# Altium schematic symbol library MCU_ST_STM32G0.SchLib: 252 symbols (part 2 of 5)
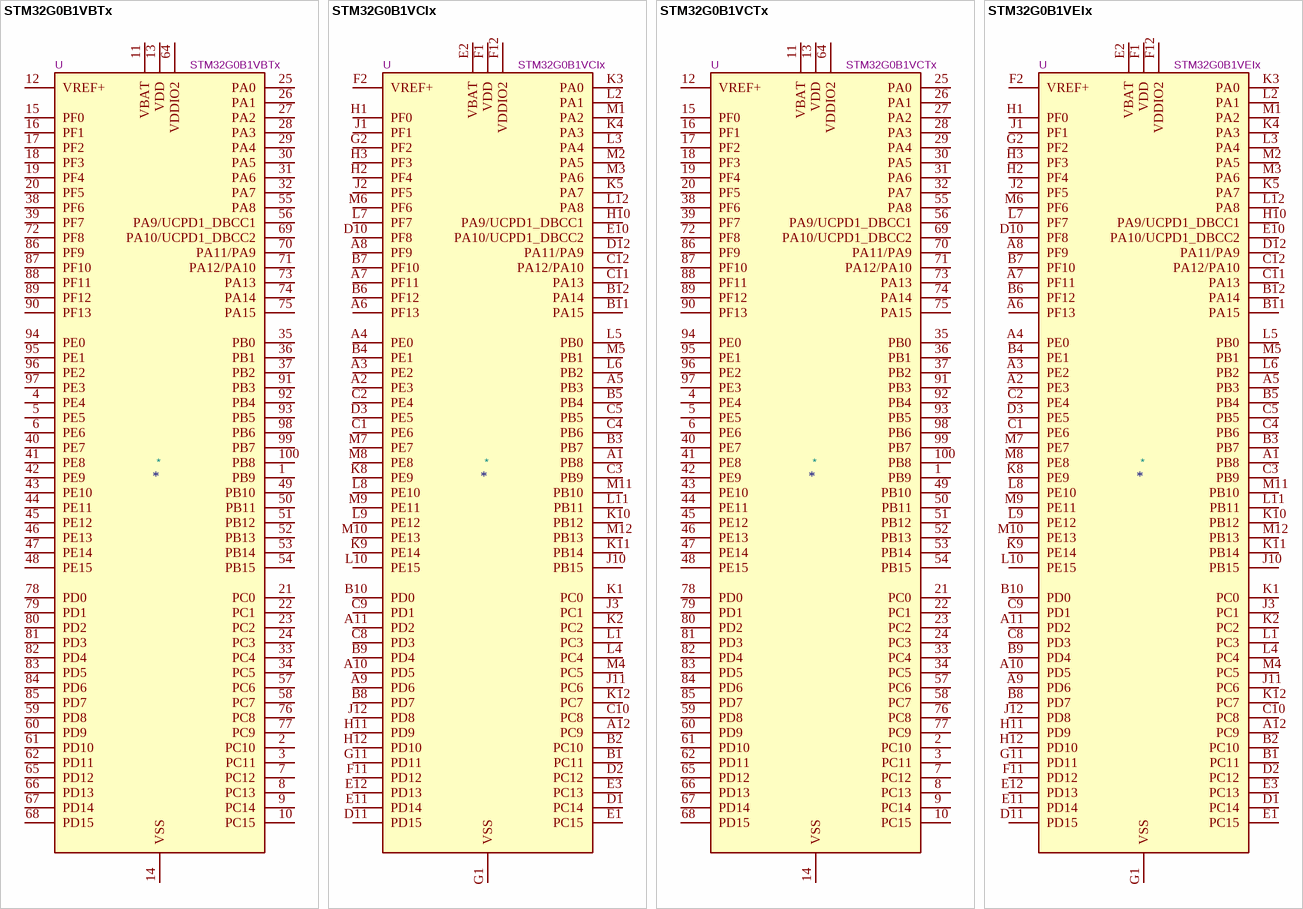
[diagram p20: symbols STM32G0B1VBTx to STM32G0B1VEIx]

## STM32G0B1VBTx
designator *  value STM32G0B1VBTx  Reference: U
ki_keywords: Arm Cortex-M0+ STM32G0 STM32G0x1; ki_description: STMicroelectronics Arm Cortex-M0+ MCU, 128KB flash, 144KB RAM, 64 MHz, 1.7-3.6V, 94 GPIO, LQFP100; ki_fp_filters: LQFP*14x14mm*P0.5mm*; Footprint: Package_QFP:LQFP-100_14x14mm_P0.5mm; Datasheet: https://www.st.com/resource/en/datasheet/stm32g0b1vb.pdf
pins: 1 PB9, 2 PC10, 3 PC11, 4 PE4, 5 PE5, 6 PE6, 7 PC12, 8 PC13, 9 PC14, 10 PC15, 11 VBAT, 12 VREF+, 13 VDD, 14 VSS, 15 PF0, 16 PF1, 17 PF2, 18 PF3, 19 PF4, 20 PF5, 21 PC0, 22 PC1, 23 PC2, 24 PC3, 25 PA0, 26 PA1, 27 PA2, 28 PA3, 29 PA4, 30 PA5, 31 PA6, 32 PA7, 33 PC4, 34 PC5, 35 PB0, 36 PB1, 37 PB2, 38 PF6, 39 PF7, 40 PE7, 41 PE8, 42 PE9, 43 PE10, 44 PE11, 45 PE12, 46 PE13, 47 PE14, 48 PE15, 49 PB10, 50 PB11, 51 PB12, 52 PB13, 53 PB14, 54 PB15, 55 PA8, 56 PA9/UCPD1_DBCC1, 57 PC6, 58 PC7, 59 PD8, 60 PD9, 61 PD10, 62 PD11, 63 VSS hidden, 64 VDDIO2, 65 PD12, 66 PD13, 67 PD14, 68 PD15, 69 PA10/UCPD1_DBCC2, 70 PA11/PA9, 71 PA12/PA10, 72 PF8, 73 PA13, 74 PA14, 75 PA15, 76 PC8, 77 PC9, 78 PD0, 79 PD1, 80 PD2, 81 PD3, 82 PD4, 83 PD5, 84 PD6, 85 PD7, 86 PF9, 87 PF10, 88 PF11, 89 PF12, 90 PF13, 91 PB3, 92 PB4, 93 PB5, 94 PE0, 95 PE1, 96 PE2, 97 PE3, 98 PB6, 99 PB7, 100 PB8

## STM32G0B1VCIx
designator *  value STM32G0B1VCIx  Reference: U
ki_keywords: Arm Cortex-M0+ STM32G0 STM32G0x1; ki_description: STMicroelectronics Arm Cortex-M0+ MCU, 256KB flash, 144KB RAM, 64 MHz, 1.7-3.6V, 94 GPIO, UFBGA100; ki_fp_filters: *UFBGA*7x7mm*Layout12x12*P0.5mm*; Footprint: Package_BGA:UFBGA-100_7x7mm_Layout12x12_P0.5mm; Datasheet: https://www.st.com/resource/en/datasheet/stm32g0b1vc.pdf
pins: A1 PB8, A2 PE3, A3 PE2, A4 PE0, A5 PB3, A6 PF13, A7 PF11, A8 PF9, A9 PD6, A10 PD5, A11 PD2, A12 PC9, B1 PC11, B2 PC10, B3 PB7, B4 PE1, B5 PB4, B6 PF12, B7 PF10, B8 PD7, B9 PD4, B10 PD0, B11 PA15, B12 PA14, C1 PE6, C2 PE4, C3 PB9, C4 PB6, C5 PB5, C8 PD3, C9 PD1, C10 PC8, C11 PA13, C12 PA12/PA10, D1 PC14, D2 PC12, D3 PE5, D10 PF8, D11 PD15, D12 PA11/PA9, E1 PC15, E2 VBAT, E3 PC13, E10 PA10/UCPD1_DBCC2, E11 PD14, E12 PD13, F1 VDD, F2 VREF+, F11 PD12, F12 VDDIO2, G1 VSS, G2 PF2, G11 PD11, G12 VSS hidden, H1 PF0, H2 PF4, H3 PF3, H10 PA9/UCPD1_DBCC1, H11 PD9, H12 PD10, J1 PF1, J2 PF5, J3 PC1, J10 PB15, J11 PC6, J12 PD8, K1 PC0, K2 PC2, K3 PA0, K4 PA3, K5 PA7, K8 PE9, K9 PE14, K10 PB12, K11 PB14, K12 PC7, L1 PC3, L2 PA1, L3 PA4, L4 PC4, L5 PB0, L6 PB2, L7 PF7, L8 PE10, L9 PE12, L10 PE15, L11 PB11, L12 PA8, M1 PA2, M2 PA5, M3 PA6, M4 PC5, M5 PB1, M6 PF6, M7 PE7, M8 PE8, M9 PE11, M10 PE13, M11 PB10, M12 PB13

## STM32G0B1VCTx
designator *  value STM32G0B1VCTx  Reference: U
ki_keywords: Arm Cortex-M0+ STM32G0 STM32G0x1; ki_description: STMicroelectronics Arm Cortex-M0+ MCU, 256KB flash, 144KB RAM, 64 MHz, 1.7-3.6V, 94 GPIO, LQFP100; ki_fp_filters: LQFP*14x14mm*P0.5mm*; Footprint: Package_QFP:LQFP-100_14x14mm_P0.5mm; Datasheet: https://www.st.com/resource/en/datasheet/stm32g0b1vc.pdf
pins: 1 PB9, 2 PC10, 3 PC11, 4 PE4, 5 PE5, 6 PE6, 7 PC12, 8 PC13, 9 PC14, 10 PC15, 11 VBAT, 12 VREF+, 13 VDD, 14 VSS, 15 PF0, 16 PF1, 17 PF2, 18 PF3, 19 PF4, 20 PF5, 21 PC0, 22 PC1, 23 PC2, 24 PC3, 25 PA0, 26 PA1, 27 PA2, 28 PA3, 29 PA4, 30 PA5, 31 PA6, 32 PA7, 33 PC4, 34 PC5, 35 PB0, 36 PB1, 37 PB2, 38 PF6, 39 PF7, 40 PE7, 41 PE8, 42 PE9, 43 PE10, 44 PE11, 45 PE12, 46 PE13, 47 PE14, 48 PE15, 49 PB10, 50 PB11, 51 PB12, 52 PB13, 53 PB14, 54 PB15, 55 PA8, 56 PA9/UCPD1_DBCC1, 57 PC6, 58 PC7, 59 PD8, 60 PD9, 61 PD10, 62 PD11, 63 VSS hidden, 64 VDDIO2, 65 PD12, 66 PD13, 67 PD14, 68 PD15, 69 PA10/UCPD1_DBCC2, 70 PA11/PA9, 71 PA12/PA10, 72 PF8, 73 PA13, 74 PA14, 75 PA15, 76 PC8, 77 PC9, 78 PD0, 79 PD1, 80 PD2, 81 PD3, 82 PD4, 83 PD5, 84 PD6, 85 PD7, 86 PF9, 87 PF10, 88 PF11, 89 PF12, 90 PF13, 91 PB3, 92 PB4, 93 PB5, 94 PE0, 95 PE1, 96 PE2, 97 PE3, 98 PB6, 99 PB7, 100 PB8

## STM32G0B1VEIx
designator *  value STM32G0B1VEIx  Reference: U
ki_keywords: Arm Cortex-M0+ STM32G0 STM32G0x1; ki_description: STMicroelectronics Arm Cortex-M0+ MCU, 512KB flash, 144KB RAM, 64 MHz, 1.7-3.6V, 94 GPIO, UFBGA100; ki_fp_filters: *UFBGA*7x7mm*Layout12x12*P0.5mm*; Footprint: Package_BGA:UFBGA-100_7x7mm_Layout12x12_P0.5mm; Datasheet: https://www.st.com/resource/en/datasheet/stm32g0b1ve.pdf
pins: A1 PB8, A2 PE3, A3 PE2, A4 PE0, A5 PB3, A6 PF13, A7 PF11, A8 PF9, A9 PD6, A10 PD5, A11 PD2, A12 PC9, B1 PC11, B2 PC10, B3 PB7, B4 PE1, B5 PB4, B6 PF12, B7 PF10, B8 PD7, B9 PD4, B10 PD0, B11 PA15, B12 PA14, C1 PE6, C2 PE4, C3 PB9, C4 PB6, C5 PB5, C8 PD3, C9 PD1, C10 PC8, C11 PA13, C12 PA12/PA10, D1 PC14, D2 PC12, D3 PE5, D10 PF8, D11 PD15, D12 PA11/PA9, E1 PC15, E2 VBAT, E3 PC13, E10 PA10/UCPD1_DBCC2, E11 PD14, E12 PD13, F1 VDD, F2 VREF+, F11 PD12, F12 VDDIO2, G1 VSS, G2 PF2, G11 PD11, G12 VSS hidden, H1 PF0, H2 PF4, H3 PF3, H10 PA9/UCPD1_DBCC1, H11 PD9, H12 PD10, J1 PF1, J2 PF5, J3 PC1, J10 PB15, J11 PC6, J12 PD8, K1 PC0, K2 PC2, K3 PA0, K4 PA3, K5 PA7, K8 PE9, K9 PE14, K10 PB12, K11 PB14, K12 PC7, L1 PC3, L2 PA1, L3 PA4, L4 PC4, L5 PB0, L6 PB2, L7 PF7, L8 PE10, L9 PE12, L10 PE15, L11 PB11, L12 PA8, M1 PA2, M2 PA5, M3 PA6, M4 PC5, M5 PB1, M6 PF6, M7 PE7, M8 PE8, M9 PE11, M10 PE13, M11 PB10, M12 PB13

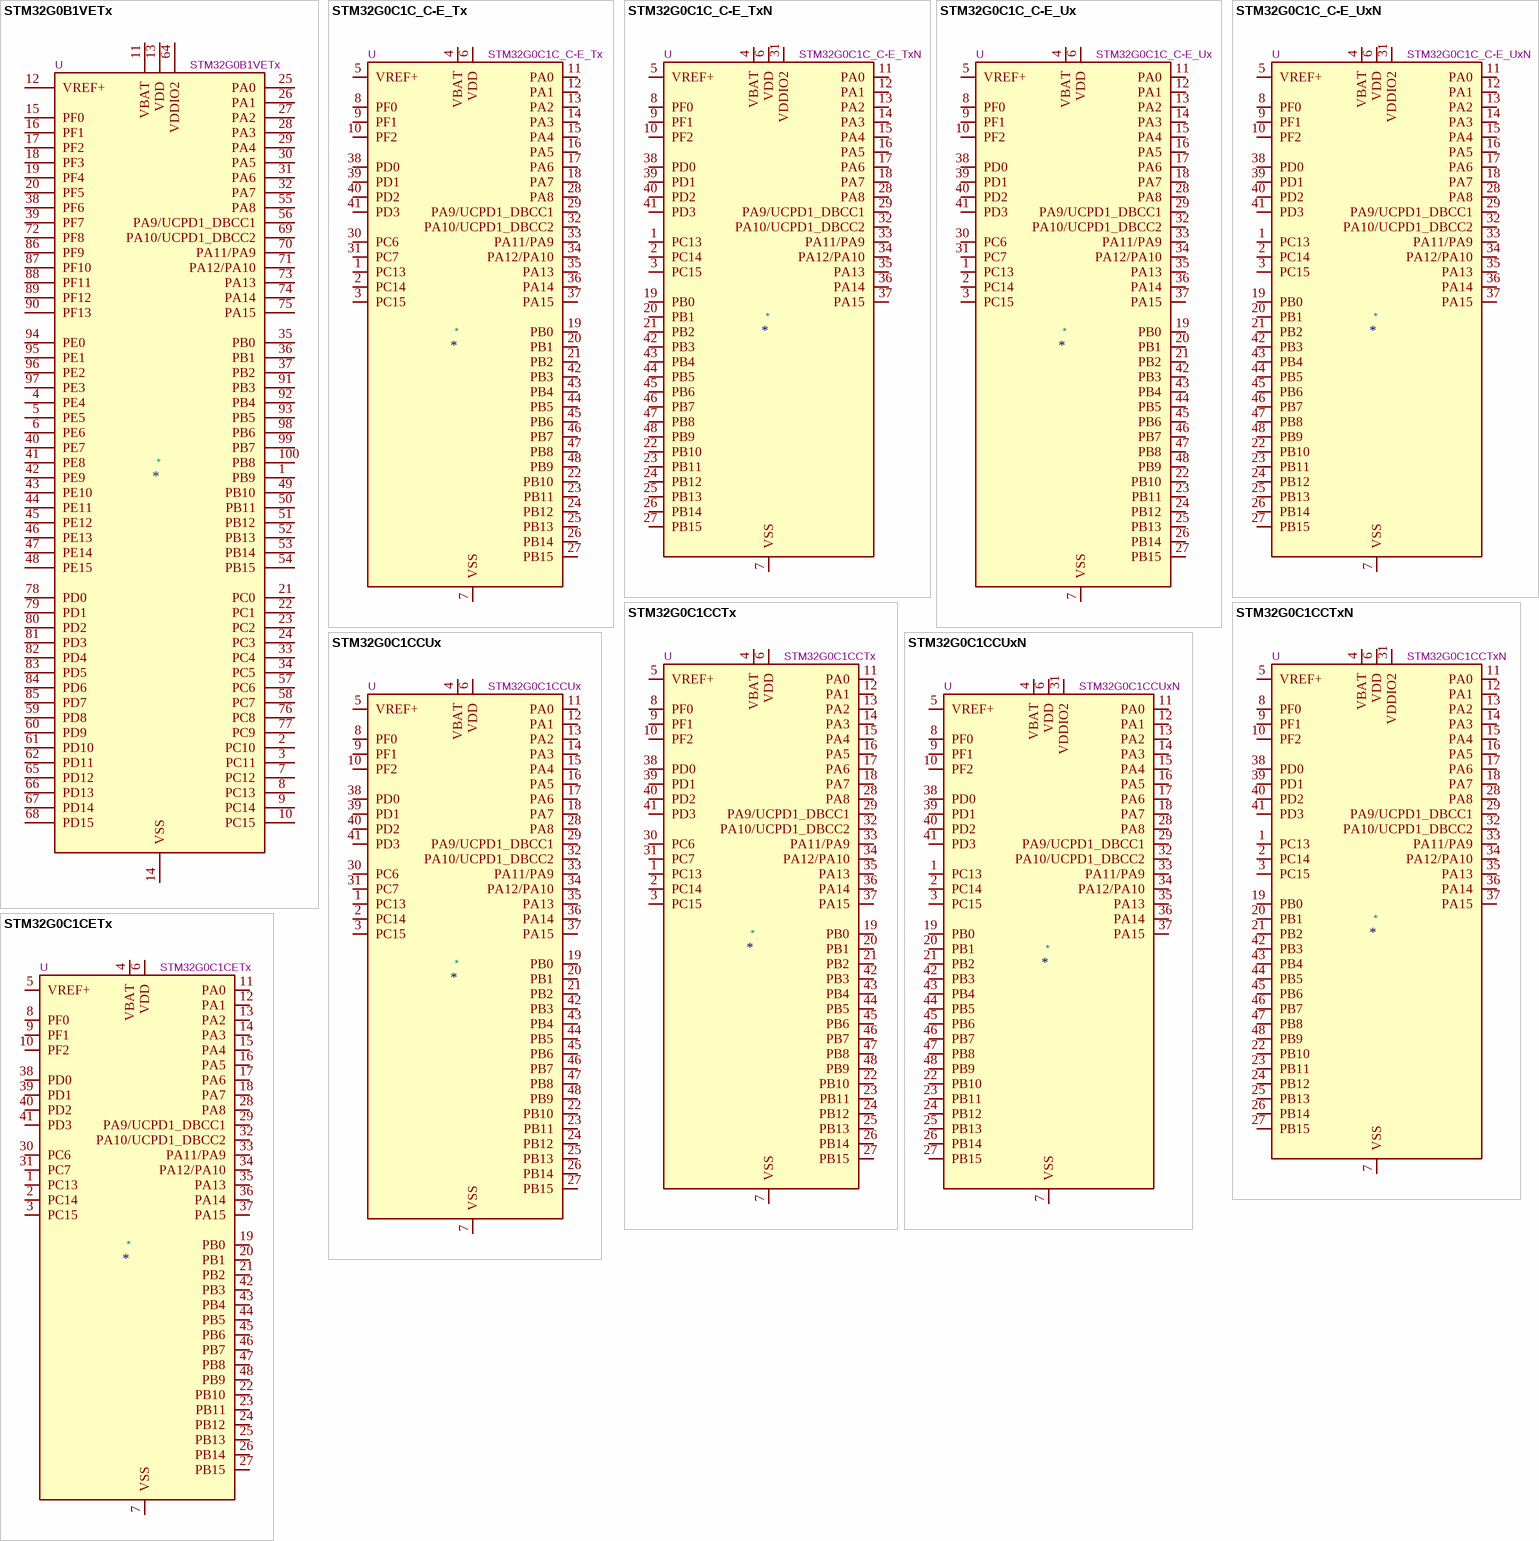
[diagram p6: symbols STM32G0B1VETx to STM32G0C1CETx]

## STM32G0B1VETx
designator *  value STM32G0B1VETx  Reference: U
ki_keywords: Arm Cortex-M0+ STM32G0 STM32G0x1; ki_description: STMicroelectronics Arm Cortex-M0+ MCU, 512KB flash, 144KB RAM, 64 MHz, 1.7-3.6V, 94 GPIO, LQFP100; ki_fp_filters: LQFP*14x14mm*P0.5mm*; Footprint: Package_QFP:LQFP-100_14x14mm_P0.5mm; Datasheet: https://www.st.com/resource/en/datasheet/stm32g0b1ve.pdf
pins: 1 PB9, 2 PC10, 3 PC11, 4 PE4, 5 PE5, 6 PE6, 7 PC12, 8 PC13, 9 PC14, 10 PC15, 11 VBAT, 12 VREF+, 13 VDD, 14 VSS, 15 PF0, 16 PF1, 17 PF2, 18 PF3, 19 PF4, 20 PF5, 21 PC0, 22 PC1, 23 PC2, 24 PC3, 25 PA0, 26 PA1, 27 PA2, 28 PA3, 29 PA4, 30 PA5, 31 PA6, 32 PA7, 33 PC4, 34 PC5, 35 PB0, 36 PB1, 37 PB2, 38 PF6, 39 PF7, 40 PE7, 41 PE8, 42 PE9, 43 PE10, 44 PE11, 45 PE12, 46 PE13, 47 PE14, 48 PE15, 49 PB10, 50 PB11, 51 PB12, 52 PB13, 53 PB14, 54 PB15, 55 PA8, 56 PA9/UCPD1_DBCC1, 57 PC6, 58 PC7, 59 PD8, 60 PD9, 61 PD10, 62 PD11, 63 VSS hidden, 64 VDDIO2, 65 PD12, 66 PD13, 67 PD14, 68 PD15, 69 PA10/UCPD1_DBCC2, 70 PA11/PA9, 71 PA12/PA10, 72 PF8, 73 PA13, 74 PA14, 75 PA15, 76 PC8, 77 PC9, 78 PD0, 79 PD1, 80 PD2, 81 PD3, 82 PD4, 83 PD5, 84 PD6, 85 PD7, 86 PF9, 87 PF10, 88 PF11, 89 PF12, 90 PF13, 91 PB3, 92 PB4, 93 PB5, 94 PE0, 95 PE1, 96 PE2, 97 PE3, 98 PB6, 99 PB7, 100 PB8

## STM32G0C1C_C-E_Tx
designator *  value STM32G0C1C_C-E_Tx  Reference: U
ki_keywords: Arm Cortex-M0+ STM32G0 STM32G0x1; ki_description: STMicroelectronics Arm Cortex-M0+ MCU, 256-512KB flash, 144KB RAM, 64 MHz, 1.7-3.6V, 44 GPIO, LQFP48; ki_fp_filters: LQFP*7x7mm*P0.5mm*; Footprint: Package_QFP:LQFP-48_7x7mm_P0.5mm; Datasheet: https://www.st.com/resource/en/datasheet/stm32g0c1cc.pdf
pins: 1 PC13, 2 PC14, 3 PC15, 4 VBAT, 5 VREF+, 6 VDD, 7 VSS, 8 PF0, 9 PF1, 10 PF2, 11 PA0, 12 PA1, 13 PA2, 14 PA3, 15 PA4, 16 PA5, 17 PA6, 18 PA7, 19 PB0, 20 PB1, 21 PB2, 22 PB10, 23 PB11, 24 PB12, 25 PB13, 26 PB14, 27 PB15, 28 PA8, 29 PA9/UCPD1_DBCC1, 30 PC6, 31 PC7, 32 PA10/UCPD1_DBCC2, 33 PA11/PA9, 34 PA12/PA10, 35 PA13, 36 PA14, 37 PA15, 38 PD0, 39 PD1, 40 PD2, 41 PD3, 42 PB3, 43 PB4, 44 PB5, 45 PB6, 46 PB7, 47 PB8, 48 PB9

## STM32G0C1C_C-E_TxN
designator *  value STM32G0C1C_C-E_TxN  Reference: U
ki_keywords: Arm Cortex-M0+ STM32G0 STM32G0x1; ki_description: STMicroelectronics Arm Cortex-M0+ MCU, 256-512KB flash, 144KB RAM, 64 MHz, 1.7-3.6V, 42 GPIO, LQFP48; ki_fp_filters: LQFP*7x7mm*P0.5mm*; Footprint: Package_QFP:LQFP-48_7x7mm_P0.5mm; Datasheet: https://www.st.com/resource/en/datasheet/stm32g0c1cc.pdf
pins: 1 PC13, 2 PC14, 3 PC15, 4 VBAT, 5 VREF+, 6 VDD, 7 VSS, 8 PF0, 9 PF1, 10 PF2, 11 PA0, 12 PA1, 13 PA2, 14 PA3, 15 PA4, 16 PA5, 17 PA6, 18 PA7, 19 PB0, 20 PB1, 21 PB2, 22 PB10, 23 PB11, 24 PB12, 25 PB13, 26 PB14, 27 PB15, 28 PA8, 29 PA9/UCPD1_DBCC1, 30 VSS hidden, 31 VDDIO2, 32 PA10/UCPD1_DBCC2, 33 PA11/PA9, 34 PA12/PA10, 35 PA13, 36 PA14, 37 PA15, 38 PD0, 39 PD1, 40 PD2, 41 PD3, 42 PB3, 43 PB4, 44 PB5, 45 PB6, 46 PB7, 47 PB8, 48 PB9

## STM32G0C1C_C-E_Ux
designator *  value STM32G0C1C_C-E_Ux  Reference: U
ki_keywords: Arm Cortex-M0+ STM32G0 STM32G0x1; ki_description: STMicroelectronics Arm Cortex-M0+ MCU, 256-512KB flash, 144KB RAM, 64 MHz, 1.7-3.6V, 44 GPIO, UFQFPN48; ki_fp_filters: QFN*1EP*7x7mm*P0.5mm*; Footprint: Package_DFN_QFN:QFN-48-1EP_7x7mm_P0.5mm_EP5.6x5.6mm; Datasheet: https://www.st.com/resource/en/datasheet/stm32g0c1cc.pdf
pins: 1 PC13, 2 PC14, 3 PC15, 4 VBAT, 5 VREF+, 6 VDD, 7 VSS, 8 PF0, 9 PF1, 10 PF2, 11 PA0, 12 PA1, 13 PA2, 14 PA3, 15 PA4, 16 PA5, 17 PA6, 18 PA7, 19 PB0, 20 PB1, 21 PB2, 22 PB10, 23 PB11, 24 PB12, 25 PB13, 26 PB14, 27 PB15, 28 PA8, 29 PA9/UCPD1_DBCC1, 30 PC6, 31 PC7, 32 PA10/UCPD1_DBCC2, 33 PA11/PA9, 34 PA12/PA10, 35 PA13, 36 PA14, 37 PA15, 38 PD0, 39 PD1, 40 PD2, 41 PD3, 42 PB3, 43 PB4, 44 PB5, 45 PB6, 46 PB7, 47 PB8, 48 PB9, 49 VSS hidden

## STM32G0C1C_C-E_UxN
designator *  value STM32G0C1C_C-E_UxN  Reference: U
ki_keywords: Arm Cortex-M0+ STM32G0 STM32G0x1; ki_description: STMicroelectronics Arm Cortex-M0+ MCU, 256-512KB flash, 144KB RAM, 64 MHz, 1.7-3.6V, 42 GPIO, UFQFPN48; ki_fp_filters: QFN*1EP*7x7mm*P0.5mm*; Footprint: Package_DFN_QFN:QFN-48-1EP_7x7mm_P0.5mm_EP5.6x5.6mm; Datasheet: https://www.st.com/resource/en/datasheet/stm32g0c1cc.pdf
pins: 1 PC13, 2 PC14, 3 PC15, 4 VBAT, 5 VREF+, 6 VDD, 7 VSS, 8 PF0, 9 PF1, 10 PF2, 11 PA0, 12 PA1, 13 PA2, 14 PA3, 15 PA4, 16 PA5, 17 PA6, 18 PA7, 19 PB0, 20 PB1, 21 PB2, 22 PB10, 23 PB11, 24 PB12, 25 PB13, 26 PB14, 27 PB15, 28 PA8, 29 PA9/UCPD1_DBCC1, 30 VSS hidden, 31 VDDIO2, 32 PA10/UCPD1_DBCC2, 33 PA11/PA9, 34 PA12/PA10, 35 PA13, 36 PA14, 37 PA15, 38 PD0, 39 PD1, 40 PD2, 41 PD3, 42 PB3, 43 PB4, 44 PB5, 45 PB6, 46 PB7, 47 PB8, 48 PB9, 49 VSS hidden

## STM32G0C1CCTx
designator *  value STM32G0C1CCTx  Reference: U
ki_keywords: Arm Cortex-M0+ STM32G0 STM32G0x1; ki_description: STMicroelectronics Arm Cortex-M0+ MCU, 256KB flash, 144KB RAM, 64 MHz, 1.7-3.6V, 44 GPIO, LQFP48; ki_fp_filters: LQFP*7x7mm*P0.5mm*; Footprint: Package_QFP:LQFP-48_7x7mm_P0.5mm; Datasheet: https://www.st.com/resource/en/datasheet/stm32g0c1cc.pdf
pins: 1 PC13, 2 PC14, 3 PC15, 4 VBAT, 5 VREF+, 6 VDD, 7 VSS, 8 PF0, 9 PF1, 10 PF2, 11 PA0, 12 PA1, 13 PA2, 14 PA3, 15 PA4, 16 PA5, 17 PA6, 18 PA7, 19 PB0, 20 PB1, 21 PB2, 22 PB10, 23 PB11, 24 PB12, 25 PB13, 26 PB14, 27 PB15, 28 PA8, 29 PA9/UCPD1_DBCC1, 30 PC6, 31 PC7, 32 PA10/UCPD1_DBCC2, 33 PA11/PA9, 34 PA12/PA10, 35 PA13, 36 PA14, 37 PA15, 38 PD0, 39 PD1, 40 PD2, 41 PD3, 42 PB3, 43 PB4, 44 PB5, 45 PB6, 46 PB7, 47 PB8, 48 PB9

## STM32G0C1CCTxN
designator *  value STM32G0C1CCTxN  Reference: U
ki_keywords: Arm Cortex-M0+ STM32G0 STM32G0x1; ki_description: STMicroelectronics Arm Cortex-M0+ MCU, 256KB flash, 144KB RAM, 64 MHz, 1.7-3.6V, 42 GPIO, LQFP48; ki_fp_filters: LQFP*7x7mm*P0.5mm*; Footprint: Package_QFP:LQFP-48_7x7mm_P0.5mm; Datasheet: https://www.st.com/resource/en/datasheet/stm32g0c1cc.pdf
pins: 1 PC13, 2 PC14, 3 PC15, 4 VBAT, 5 VREF+, 6 VDD, 7 VSS, 8 PF0, 9 PF1, 10 PF2, 11 PA0, 12 PA1, 13 PA2, 14 PA3, 15 PA4, 16 PA5, 17 PA6, 18 PA7, 19 PB0, 20 PB1, 21 PB2, 22 PB10, 23 PB11, 24 PB12, 25 PB13, 26 PB14, 27 PB15, 28 PA8, 29 PA9/UCPD1_DBCC1, 30 VSS hidden, 31 VDDIO2, 32 PA10/UCPD1_DBCC2, 33 PA11/PA9, 34 PA12/PA10, 35 PA13, 36 PA14, 37 PA15, 38 PD0, 39 PD1, 40 PD2, 41 PD3, 42 PB3, 43 PB4, 44 PB5, 45 PB6, 46 PB7, 47 PB8, 48 PB9

## STM32G0C1CCUx
designator *  value STM32G0C1CCUx  Reference: U
ki_keywords: Arm Cortex-M0+ STM32G0 STM32G0x1; ki_description: STMicroelectronics Arm Cortex-M0+ MCU, 256KB flash, 144KB RAM, 64 MHz, 1.7-3.6V, 44 GPIO, UFQFPN48; ki_fp_filters: QFN*1EP*7x7mm*P0.5mm*; Footprint: Package_DFN_QFN:QFN-48-1EP_7x7mm_P0.5mm_EP5.6x5.6mm; Datasheet: https://www.st.com/resource/en/datasheet/stm32g0c1cc.pdf
pins: 1 PC13, 2 PC14, 3 PC15, 4 VBAT, 5 VREF+, 6 VDD, 7 VSS, 8 PF0, 9 PF1, 10 PF2, 11 PA0, 12 PA1, 13 PA2, 14 PA3, 15 PA4, 16 PA5, 17 PA6, 18 PA7, 19 PB0, 20 PB1, 21 PB2, 22 PB10, 23 PB11, 24 PB12, 25 PB13, 26 PB14, 27 PB15, 28 PA8, 29 PA9/UCPD1_DBCC1, 30 PC6, 31 PC7, 32 PA10/UCPD1_DBCC2, 33 PA11/PA9, 34 PA12/PA10, 35 PA13, 36 PA14, 37 PA15, 38 PD0, 39 PD1, 40 PD2, 41 PD3, 42 PB3, 43 PB4, 44 PB5, 45 PB6, 46 PB7, 47 PB8, 48 PB9, 49 VSS hidden

## STM32G0C1CCUxN
designator *  value STM32G0C1CCUxN  Reference: U
ki_keywords: Arm Cortex-M0+ STM32G0 STM32G0x1; ki_description: STMicroelectronics Arm Cortex-M0+ MCU, 256KB flash, 144KB RAM, 64 MHz, 1.7-3.6V, 42 GPIO, UFQFPN48; ki_fp_filters: QFN*1EP*7x7mm*P0.5mm*; Footprint: Package_DFN_QFN:QFN-48-1EP_7x7mm_P0.5mm_EP5.6x5.6mm; Datasheet: https://www.st.com/resource/en/datasheet/stm32g0c1cc.pdf
pins: 1 PC13, 2 PC14, 3 PC15, 4 VBAT, 5 VREF+, 6 VDD, 7 VSS, 8 PF0, 9 PF1, 10 PF2, 11 PA0, 12 PA1, 13 PA2, 14 PA3, 15 PA4, 16 PA5, 17 PA6, 18 PA7, 19 PB0, 20 PB1, 21 PB2, 22 PB10, 23 PB11, 24 PB12, 25 PB13, 26 PB14, 27 PB15, 28 PA8, 29 PA9/UCPD1_DBCC1, 30 VSS hidden, 31 VDDIO2, 32 PA10/UCPD1_DBCC2, 33 PA11/PA9, 34 PA12/PA10, 35 PA13, 36 PA14, 37 PA15, 38 PD0, 39 PD1, 40 PD2, 41 PD3, 42 PB3, 43 PB4, 44 PB5, 45 PB6, 46 PB7, 47 PB8, 48 PB9, 49 VSS hidden

## STM32G0C1CETx
designator *  value STM32G0C1CETx  Reference: U
ki_keywords: Arm Cortex-M0+ STM32G0 STM32G0x1; ki_description: STMicroelectronics Arm Cortex-M0+ MCU, 512KB flash, 144KB RAM, 64 MHz, 1.7-3.6V, 44 GPIO, LQFP48; ki_fp_filters: LQFP*7x7mm*P0.5mm*; Footprint: Package_QFP:LQFP-48_7x7mm_P0.5mm; Datasheet: https://www.st.com/resource/en/datasheet/stm32g0c1ce.pdf
pins: 1 PC13, 2 PC14, 3 PC15, 4 VBAT, 5 VREF+, 6 VDD, 7 VSS, 8 PF0, 9 PF1, 10 PF2, 11 PA0, 12 PA1, 13 PA2, 14 PA3, 15 PA4, 16 PA5, 17 PA6, 18 PA7, 19 PB0, 20 PB1, 21 PB2, 22 PB10, 23 PB11, 24 PB12, 25 PB13, 26 PB14, 27 PB15, 28 PA8, 29 PA9/UCPD1_DBCC1, 30 PC6, 31 PC7, 32 PA10/UCPD1_DBCC2, 33 PA11/PA9, 34 PA12/PA10, 35 PA13, 36 PA14, 37 PA15, 38 PD0, 39 PD1, 40 PD2, 41 PD3, 42 PB3, 43 PB4, 44 PB5, 45 PB6, 46 PB7, 47 PB8, 48 PB9

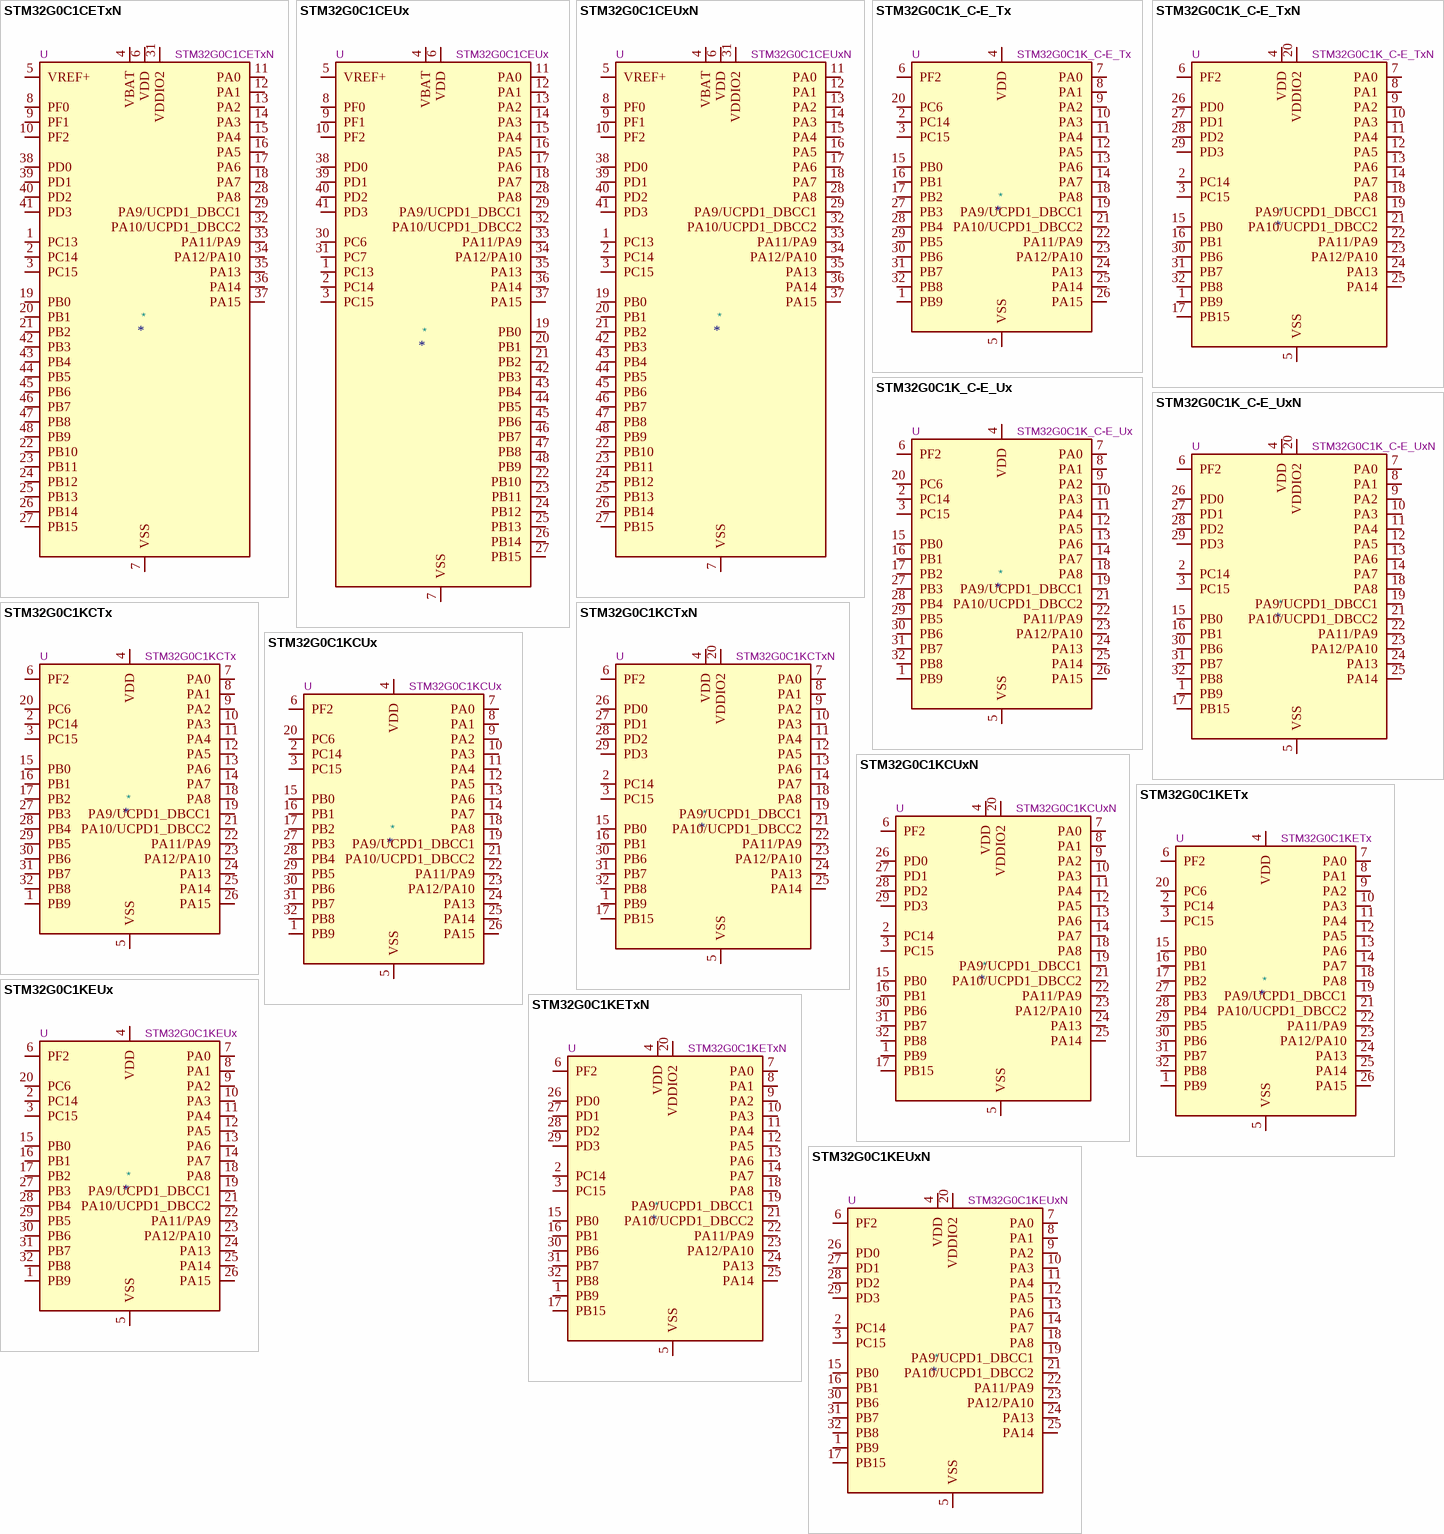
[diagram p7: symbols STM32G0C1CETxN to STM32G0C1KEUxN]

## STM32G0C1CETxN
designator *  value STM32G0C1CETxN  Reference: U
ki_keywords: Arm Cortex-M0+ STM32G0 STM32G0x1; ki_description: STMicroelectronics Arm Cortex-M0+ MCU, 512KB flash, 144KB RAM, 64 MHz, 1.7-3.6V, 42 GPIO, LQFP48; ki_fp_filters: LQFP*7x7mm*P0.5mm*; Footprint: Package_QFP:LQFP-48_7x7mm_P0.5mm; Datasheet: https://www.st.com/resource/en/datasheet/stm32g0c1ce.pdf
pins: 1 PC13, 2 PC14, 3 PC15, 4 VBAT, 5 VREF+, 6 VDD, 7 VSS, 8 PF0, 9 PF1, 10 PF2, 11 PA0, 12 PA1, 13 PA2, 14 PA3, 15 PA4, 16 PA5, 17 PA6, 18 PA7, 19 PB0, 20 PB1, 21 PB2, 22 PB10, 23 PB11, 24 PB12, 25 PB13, 26 PB14, 27 PB15, 28 PA8, 29 PA9/UCPD1_DBCC1, 30 VSS hidden, 31 VDDIO2, 32 PA10/UCPD1_DBCC2, 33 PA11/PA9, 34 PA12/PA10, 35 PA13, 36 PA14, 37 PA15, 38 PD0, 39 PD1, 40 PD2, 41 PD3, 42 PB3, 43 PB4, 44 PB5, 45 PB6, 46 PB7, 47 PB8, 48 PB9

## STM32G0C1CEUx
designator *  value STM32G0C1CEUx  Reference: U
ki_keywords: Arm Cortex-M0+ STM32G0 STM32G0x1; ki_description: STMicroelectronics Arm Cortex-M0+ MCU, 512KB flash, 144KB RAM, 64 MHz, 1.7-3.6V, 44 GPIO, UFQFPN48; ki_fp_filters: QFN*1EP*7x7mm*P0.5mm*; Footprint: Package_DFN_QFN:QFN-48-1EP_7x7mm_P0.5mm_EP5.6x5.6mm; Datasheet: https://www.st.com/resource/en/datasheet/stm32g0c1ce.pdf
pins: 1 PC13, 2 PC14, 3 PC15, 4 VBAT, 5 VREF+, 6 VDD, 7 VSS, 8 PF0, 9 PF1, 10 PF2, 11 PA0, 12 PA1, 13 PA2, 14 PA3, 15 PA4, 16 PA5, 17 PA6, 18 PA7, 19 PB0, 20 PB1, 21 PB2, 22 PB10, 23 PB11, 24 PB12, 25 PB13, 26 PB14, 27 PB15, 28 PA8, 29 PA9/UCPD1_DBCC1, 30 PC6, 31 PC7, 32 PA10/UCPD1_DBCC2, 33 PA11/PA9, 34 PA12/PA10, 35 PA13, 36 PA14, 37 PA15, 38 PD0, 39 PD1, 40 PD2, 41 PD3, 42 PB3, 43 PB4, 44 PB5, 45 PB6, 46 PB7, 47 PB8, 48 PB9, 49 VSS hidden

## STM32G0C1CEUxN
designator *  value STM32G0C1CEUxN  Reference: U
ki_keywords: Arm Cortex-M0+ STM32G0 STM32G0x1; ki_description: STMicroelectronics Arm Cortex-M0+ MCU, 512KB flash, 144KB RAM, 64 MHz, 1.7-3.6V, 42 GPIO, UFQFPN48; ki_fp_filters: QFN*1EP*7x7mm*P0.5mm*; Footprint: Package_DFN_QFN:QFN-48-1EP_7x7mm_P0.5mm_EP5.6x5.6mm; Datasheet: https://www.st.com/resource/en/datasheet/stm32g0c1ce.pdf
pins: 1 PC13, 2 PC14, 3 PC15, 4 VBAT, 5 VREF+, 6 VDD, 7 VSS, 8 PF0, 9 PF1, 10 PF2, 11 PA0, 12 PA1, 13 PA2, 14 PA3, 15 PA4, 16 PA5, 17 PA6, 18 PA7, 19 PB0, 20 PB1, 21 PB2, 22 PB10, 23 PB11, 24 PB12, 25 PB13, 26 PB14, 27 PB15, 28 PA8, 29 PA9/UCPD1_DBCC1, 30 VSS hidden, 31 VDDIO2, 32 PA10/UCPD1_DBCC2, 33 PA11/PA9, 34 PA12/PA10, 35 PA13, 36 PA14, 37 PA15, 38 PD0, 39 PD1, 40 PD2, 41 PD3, 42 PB3, 43 PB4, 44 PB5, 45 PB6, 46 PB7, 47 PB8, 48 PB9, 49 VSS hidden

## STM32G0C1K_C-E_Tx
designator *  value STM32G0C1K_C-E_Tx  Reference: U
ki_keywords: Arm Cortex-M0+ STM32G0 STM32G0x1; ki_description: STMicroelectronics Arm Cortex-M0+ MCU, 256-512KB flash, 144KB RAM, 64 MHz, 1.7-3.6V, 30 GPIO, LQFP32; ki_fp_filters: LQFP*7x7mm*P0.8mm*; Footprint: Package_QFP:LQFP-32_7x7mm_P0.8mm; Datasheet: https://www.st.com/resource/en/datasheet/stm32g0c1kc.pdf
pins: 1 PB9, 2 PC14, 3 PC15, 4 VDD, 5 VSS, 6 PF2, 7 PA0, 8 PA1, 9 PA2, 10 PA3, 11 PA4, 12 PA5, 13 PA6, 14 PA7, 15 PB0, 16 PB1, 17 PB2, 18 PA8, 19 PA9/UCPD1_DBCC1, 20 PC6, 21 PA10/UCPD1_DBCC2, 22 PA11/PA9, 23 PA12/PA10, 24 PA13, 25 PA14, 26 PA15, 27 PB3, 28 PB4, 29 PB5, 30 PB6, 31 PB7, 32 PB8

## STM32G0C1K_C-E_TxN
designator *  value STM32G0C1K_C-E_TxN  Reference: U
ki_keywords: Arm Cortex-M0+ STM32G0 STM32G0x1; ki_description: STMicroelectronics Arm Cortex-M0+ MCU, 256-512KB flash, 144KB RAM, 64 MHz, 1.7-3.6V, 29 GPIO, LQFP32; ki_fp_filters: LQFP*7x7mm*P0.8mm*; Footprint: Package_QFP:LQFP-32_7x7mm_P0.8mm; Datasheet: https://www.st.com/resource/en/datasheet/stm32g0c1kc.pdf
pins: 1 PB9, 2 PC14, 3 PC15, 4 VDD, 5 VSS, 6 PF2, 7 PA0, 8 PA1, 9 PA2, 10 PA3, 11 PA4, 12 PA5, 13 PA6, 14 PA7, 15 PB0, 16 PB1, 17 PB15, 18 PA8, 19 PA9/UCPD1_DBCC1, 20 VDDIO2, 21 PA10/UCPD1_DBCC2, 22 PA11/PA9, 23 PA12/PA10, 24 PA13, 25 PA14, 26 PD0, 27 PD1, 28 PD2, 29 PD3, 30 PB6, 31 PB7, 32 PB8

## STM32G0C1K_C-E_Ux
designator *  value STM32G0C1K_C-E_Ux  Reference: U
ki_keywords: Arm Cortex-M0+ STM32G0 STM32G0x1; ki_description: STMicroelectronics Arm Cortex-M0+ MCU, 256-512KB flash, 144KB RAM, 64 MHz, 1.7-3.6V, 30 GPIO, UFQFPN32; ki_fp_filters: QFN*1EP*5x5mm*P0.5mm*; Footprint: Package_DFN_QFN:QFN-32-1EP_5x5mm_P0.5mm_EP3.45x3.45mm; Datasheet: https://www.st.com/resource/en/datasheet/stm32g0c1kc.pdf
pins: 1 PB9, 2 PC14, 3 PC15, 4 VDD, 5 VSS, 6 PF2, 7 PA0, 8 PA1, 9 PA2, 10 PA3, 11 PA4, 12 PA5, 13 PA6, 14 PA7, 15 PB0, 16 PB1, 17 PB2, 18 PA8, 19 PA9/UCPD1_DBCC1, 20 PC6, 21 PA10/UCPD1_DBCC2, 22 PA11/PA9, 23 PA12/PA10, 24 PA13, 25 PA14, 26 PA15, 27 PB3, 28 PB4, 29 PB5, 30 PB6, 31 PB7, 32 PB8, 33 VSS hidden

## STM32G0C1K_C-E_UxN
designator *  value STM32G0C1K_C-E_UxN  Reference: U
ki_keywords: Arm Cortex-M0+ STM32G0 STM32G0x1; ki_description: STMicroelectronics Arm Cortex-M0+ MCU, 256-512KB flash, 144KB RAM, 64 MHz, 1.7-3.6V, 29 GPIO, UFQFPN32; ki_fp_filters: QFN*1EP*5x5mm*P0.5mm*; Footprint: Package_DFN_QFN:QFN-32-1EP_5x5mm_P0.5mm_EP3.45x3.45mm; Datasheet: https://www.st.com/resource/en/datasheet/stm32g0c1kc.pdf
pins: 1 PB9, 2 PC14, 3 PC15, 4 VDD, 5 VSS, 6 PF2, 7 PA0, 8 PA1, 9 PA2, 10 PA3, 11 PA4, 12 PA5, 13 PA6, 14 PA7, 15 PB0, 16 PB1, 17 PB15, 18 PA8, 19 PA9/UCPD1_DBCC1, 20 VDDIO2, 21 PA10/UCPD1_DBCC2, 22 PA11/PA9, 23 PA12/PA10, 24 PA13, 25 PA14, 26 PD0, 27 PD1, 28 PD2, 29 PD3, 30 PB6, 31 PB7, 32 PB8, 33 VSS hidden

## STM32G0C1KCTx
designator *  value STM32G0C1KCTx  Reference: U
ki_keywords: Arm Cortex-M0+ STM32G0 STM32G0x1; ki_description: STMicroelectronics Arm Cortex-M0+ MCU, 256KB flash, 144KB RAM, 64 MHz, 1.7-3.6V, 30 GPIO, LQFP32; ki_fp_filters: LQFP*7x7mm*P0.8mm*; Footprint: Package_QFP:LQFP-32_7x7mm_P0.8mm; Datasheet: https://www.st.com/resource/en/datasheet/stm32g0c1kc.pdf
pins: 1 PB9, 2 PC14, 3 PC15, 4 VDD, 5 VSS, 6 PF2, 7 PA0, 8 PA1, 9 PA2, 10 PA3, 11 PA4, 12 PA5, 13 PA6, 14 PA7, 15 PB0, 16 PB1, 17 PB2, 18 PA8, 19 PA9/UCPD1_DBCC1, 20 PC6, 21 PA10/UCPD1_DBCC2, 22 PA11/PA9, 23 PA12/PA10, 24 PA13, 25 PA14, 26 PA15, 27 PB3, 28 PB4, 29 PB5, 30 PB6, 31 PB7, 32 PB8

## STM32G0C1KCTxN
designator *  value STM32G0C1KCTxN  Reference: U
ki_keywords: Arm Cortex-M0+ STM32G0 STM32G0x1; ki_description: STMicroelectronics Arm Cortex-M0+ MCU, 256KB flash, 144KB RAM, 64 MHz, 1.7-3.6V, 29 GPIO, LQFP32; ki_fp_filters: LQFP*7x7mm*P0.8mm*; Footprint: Package_QFP:LQFP-32_7x7mm_P0.8mm; Datasheet: https://www.st.com/resource/en/datasheet/stm32g0c1kc.pdf
pins: 1 PB9, 2 PC14, 3 PC15, 4 VDD, 5 VSS, 6 PF2, 7 PA0, 8 PA1, 9 PA2, 10 PA3, 11 PA4, 12 PA5, 13 PA6, 14 PA7, 15 PB0, 16 PB1, 17 PB15, 18 PA8, 19 PA9/UCPD1_DBCC1, 20 VDDIO2, 21 PA10/UCPD1_DBCC2, 22 PA11/PA9, 23 PA12/PA10, 24 PA13, 25 PA14, 26 PD0, 27 PD1, 28 PD2, 29 PD3, 30 PB6, 31 PB7, 32 PB8

## STM32G0C1KCUx
designator *  value STM32G0C1KCUx  Reference: U
ki_keywords: Arm Cortex-M0+ STM32G0 STM32G0x1; ki_description: STMicroelectronics Arm Cortex-M0+ MCU, 256KB flash, 144KB RAM, 64 MHz, 1.7-3.6V, 30 GPIO, UFQFPN32; ki_fp_filters: QFN*1EP*5x5mm*P0.5mm*; Footprint: Package_DFN_QFN:QFN-32-1EP_5x5mm_P0.5mm_EP3.45x3.45mm; Datasheet: https://www.st.com/resource/en/datasheet/stm32g0c1kc.pdf
pins: 1 PB9, 2 PC14, 3 PC15, 4 VDD, 5 VSS, 6 PF2, 7 PA0, 8 PA1, 9 PA2, 10 PA3, 11 PA4, 12 PA5, 13 PA6, 14 PA7, 15 PB0, 16 PB1, 17 PB2, 18 PA8, 19 PA9/UCPD1_DBCC1, 20 PC6, 21 PA10/UCPD1_DBCC2, 22 PA11/PA9, 23 PA12/PA10, 24 PA13, 25 PA14, 26 PA15, 27 PB3, 28 PB4, 29 PB5, 30 PB6, 31 PB7, 32 PB8, 33 VSS hidden

## STM32G0C1KCUxN
designator *  value STM32G0C1KCUxN  Reference: U
ki_keywords: Arm Cortex-M0+ STM32G0 STM32G0x1; ki_description: STMicroelectronics Arm Cortex-M0+ MCU, 256KB flash, 144KB RAM, 64 MHz, 1.7-3.6V, 29 GPIO, UFQFPN32; ki_fp_filters: QFN*1EP*5x5mm*P0.5mm*; Footprint: Package_DFN_QFN:QFN-32-1EP_5x5mm_P0.5mm_EP3.45x3.45mm; Datasheet: https://www.st.com/resource/en/datasheet/stm32g0c1kc.pdf
pins: 1 PB9, 2 PC14, 3 PC15, 4 VDD, 5 VSS, 6 PF2, 7 PA0, 8 PA1, 9 PA2, 10 PA3, 11 PA4, 12 PA5, 13 PA6, 14 PA7, 15 PB0, 16 PB1, 17 PB15, 18 PA8, 19 PA9/UCPD1_DBCC1, 20 VDDIO2, 21 PA10/UCPD1_DBCC2, 22 PA11/PA9, 23 PA12/PA10, 24 PA13, 25 PA14, 26 PD0, 27 PD1, 28 PD2, 29 PD3, 30 PB6, 31 PB7, 32 PB8, 33 VSS hidden

## STM32G0C1KETx
designator *  value STM32G0C1KETx  Reference: U
ki_keywords: Arm Cortex-M0+ STM32G0 STM32G0x1; ki_description: STMicroelectronics Arm Cortex-M0+ MCU, 512KB flash, 144KB RAM, 64 MHz, 1.7-3.6V, 30 GPIO, LQFP32; ki_fp_filters: LQFP*7x7mm*P0.8mm*; Footprint: Package_QFP:LQFP-32_7x7mm_P0.8mm; Datasheet: https://www.st.com/resource/en/datasheet/stm32g0c1ke.pdf
pins: 1 PB9, 2 PC14, 3 PC15, 4 VDD, 5 VSS, 6 PF2, 7 PA0, 8 PA1, 9 PA2, 10 PA3, 11 PA4, 12 PA5, 13 PA6, 14 PA7, 15 PB0, 16 PB1, 17 PB2, 18 PA8, 19 PA9/UCPD1_DBCC1, 20 PC6, 21 PA10/UCPD1_DBCC2, 22 PA11/PA9, 23 PA12/PA10, 24 PA13, 25 PA14, 26 PA15, 27 PB3, 28 PB4, 29 PB5, 30 PB6, 31 PB7, 32 PB8

## STM32G0C1KETxN
designator *  value STM32G0C1KETxN  Reference: U
ki_keywords: Arm Cortex-M0+ STM32G0 STM32G0x1; ki_description: STMicroelectronics Arm Cortex-M0+ MCU, 512KB flash, 144KB RAM, 64 MHz, 1.7-3.6V, 29 GPIO, LQFP32; ki_fp_filters: LQFP*7x7mm*P0.8mm*; Footprint: Package_QFP:LQFP-32_7x7mm_P0.8mm; Datasheet: https://www.st.com/resource/en/datasheet/stm32g0c1ke.pdf
pins: 1 PB9, 2 PC14, 3 PC15, 4 VDD, 5 VSS, 6 PF2, 7 PA0, 8 PA1, 9 PA2, 10 PA3, 11 PA4, 12 PA5, 13 PA6, 14 PA7, 15 PB0, 16 PB1, 17 PB15, 18 PA8, 19 PA9/UCPD1_DBCC1, 20 VDDIO2, 21 PA10/UCPD1_DBCC2, 22 PA11/PA9, 23 PA12/PA10, 24 PA13, 25 PA14, 26 PD0, 27 PD1, 28 PD2, 29 PD3, 30 PB6, 31 PB7, 32 PB8

## STM32G0C1KEUx
designator *  value STM32G0C1KEUx  Reference: U
ki_keywords: Arm Cortex-M0+ STM32G0 STM32G0x1; ki_description: STMicroelectronics Arm Cortex-M0+ MCU, 512KB flash, 144KB RAM, 64 MHz, 1.7-3.6V, 30 GPIO, UFQFPN32; ki_fp_filters: QFN*1EP*5x5mm*P0.5mm*; Footprint: Package_DFN_QFN:QFN-32-1EP_5x5mm_P0.5mm_EP3.45x3.45mm; Datasheet: https://www.st.com/resource/en/datasheet/stm32g0c1ke.pdf
pins: 1 PB9, 2 PC14, 3 PC15, 4 VDD, 5 VSS, 6 PF2, 7 PA0, 8 PA1, 9 PA2, 10 PA3, 11 PA4, 12 PA5, 13 PA6, 14 PA7, 15 PB0, 16 PB1, 17 PB2, 18 PA8, 19 PA9/UCPD1_DBCC1, 20 PC6, 21 PA10/UCPD1_DBCC2, 22 PA11/PA9, 23 PA12/PA10, 24 PA13, 25 PA14, 26 PA15, 27 PB3, 28 PB4, 29 PB5, 30 PB6, 31 PB7, 32 PB8, 33 VSS hidden

## STM32G0C1KEUxN
designator *  value STM32G0C1KEUxN  Reference: U
ki_keywords: Arm Cortex-M0+ STM32G0 STM32G0x1; ki_description: STMicroelectronics Arm Cortex-M0+ MCU, 512KB flash, 144KB RAM, 64 MHz, 1.7-3.6V, 29 GPIO, UFQFPN32; ki_fp_filters: QFN*1EP*5x5mm*P0.5mm*; Footprint: Package_DFN_QFN:QFN-32-1EP_5x5mm_P0.5mm_EP3.45x3.45mm; Datasheet: https://www.st.com/resource/en/datasheet/stm32g0c1ke.pdf
pins: 1 PB9, 2 PC14, 3 PC15, 4 VDD, 5 VSS, 6 PF2, 7 PA0, 8 PA1, 9 PA2, 10 PA3, 11 PA4, 12 PA5, 13 PA6, 14 PA7, 15 PB0, 16 PB1, 17 PB15, 18 PA8, 19 PA9/UCPD1_DBCC1, 20 VDDIO2, 21 PA10/UCPD1_DBCC2, 22 PA11/PA9, 23 PA12/PA10, 24 PA13, 25 PA14, 26 PD0, 27 PD1, 28 PD2, 29 PD3, 30 PB6, 31 PB7, 32 PB8, 33 VSS hidden

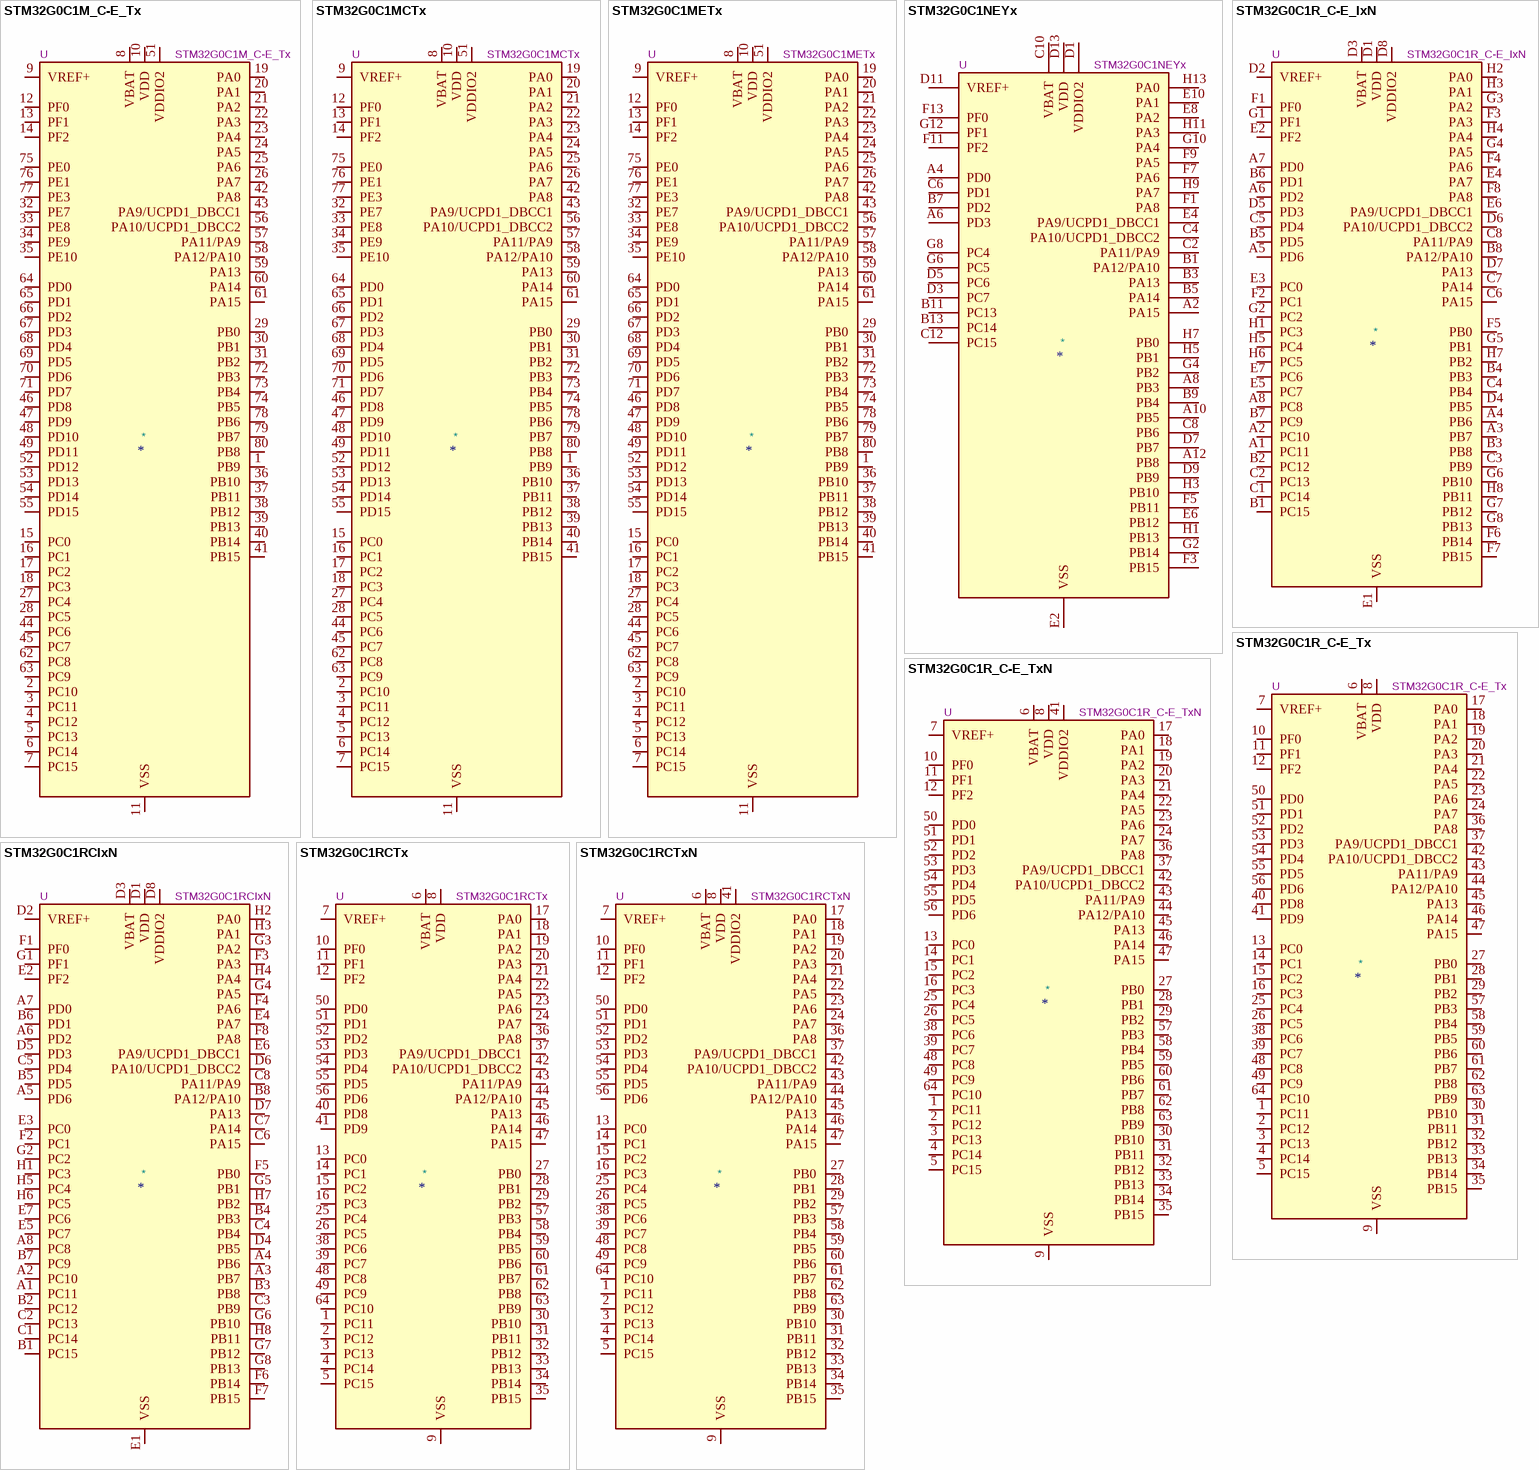
[diagram p8: symbols STM32G0C1M_C-E_Tx to STM32G0C1RCTxN]

## STM32G0C1M_C-E_Tx
designator *  value STM32G0C1M_C-E_Tx  Reference: U
ki_keywords: Arm Cortex-M0+ STM32G0 STM32G0x1; ki_description: STMicroelectronics Arm Cortex-M0+ MCU, 256-512KB flash, 144KB RAM, 64 MHz, 1.7-3.6V, 74 GPIO, LQFP80; ki_fp_filters: LQFP*12x12mm*P0.5mm*; Footprint: Package_QFP:LQFP-80_12x12mm_P0.5mm; Datasheet: https://www.st.com/resource/en/datasheet/stm32g0c1mc.pdf
pins: 1 PB9, 2 PC10, 3 PC11, 4 PC12, 5 PC13, 6 PC14, 7 PC15, 8 VBAT, 9 VREF+, 10 VDD, 11 VSS, 12 PF0, 13 PF1, 14 PF2, 15 PC0, 16 PC1, 17 PC2, 18 PC3, 19 PA0, 20 PA1, 21 PA2, 22 PA3, 23 PA4, 24 PA5, 25 PA6, 26 PA7, 27 PC4, 28 PC5, 29 PB0, 30 PB1, 31 PB2, 32 PE7, 33 PE8, 34 PE9, 35 PE10, 36 PB10, 37 PB11, 38 PB12, 39 PB13, 40 PB14, 41 PB15, 42 PA8, 43 PA9/UCPD1_DBCC1, 44 PC6, 45 PC7, 46 PD8, 47 PD9, 48 PD10, 49 PD11, 50 VSS hidden, 51 VDDIO2, 52 PD12, 53 PD13, 54 PD14, 55 PD15, 56 PA10/UCPD1_DBCC2, 57 PA11/PA9, 58 PA12/PA10, 59 PA13, 60 PA14, 61 PA15, 62 PC8, 63 PC9, 64 PD0, 65 PD1, 66 PD2, 67 PD3, 68 PD4, 69 PD5, 70 PD6, 71 PD7, 72 PB3, 73 PB4, 74 PB5, 75 PE0, 76 PE1, 77 PE3, 78 PB6, 79 PB7, 80 PB8

## STM32G0C1MCTx
designator *  value STM32G0C1MCTx  Reference: U
ki_keywords: Arm Cortex-M0+ STM32G0 STM32G0x1; ki_description: STMicroelectronics Arm Cortex-M0+ MCU, 256KB flash, 144KB RAM, 64 MHz, 1.7-3.6V, 74 GPIO, LQFP80; ki_fp_filters: LQFP*12x12mm*P0.5mm*; Footprint: Package_QFP:LQFP-80_12x12mm_P0.5mm; Datasheet: https://www.st.com/resource/en/datasheet/stm32g0c1mc.pdf
pins: 1 PB9, 2 PC10, 3 PC11, 4 PC12, 5 PC13, 6 PC14, 7 PC15, 8 VBAT, 9 VREF+, 10 VDD, 11 VSS, 12 PF0, 13 PF1, 14 PF2, 15 PC0, 16 PC1, 17 PC2, 18 PC3, 19 PA0, 20 PA1, 21 PA2, 22 PA3, 23 PA4, 24 PA5, 25 PA6, 26 PA7, 27 PC4, 28 PC5, 29 PB0, 30 PB1, 31 PB2, 32 PE7, 33 PE8, 34 PE9, 35 PE10, 36 PB10, 37 PB11, 38 PB12, 39 PB13, 40 PB14, 41 PB15, 42 PA8, 43 PA9/UCPD1_DBCC1, 44 PC6, 45 PC7, 46 PD8, 47 PD9, 48 PD10, 49 PD11, 50 VSS hidden, 51 VDDIO2, 52 PD12, 53 PD13, 54 PD14, 55 PD15, 56 PA10/UCPD1_DBCC2, 57 PA11/PA9, 58 PA12/PA10, 59 PA13, 60 PA14, 61 PA15, 62 PC8, 63 PC9, 64 PD0, 65 PD1, 66 PD2, 67 PD3, 68 PD4, 69 PD5, 70 PD6, 71 PD7, 72 PB3, 73 PB4, 74 PB5, 75 PE0, 76 PE1, 77 PE3, 78 PB6, 79 PB7, 80 PB8

## STM32G0C1METx
designator *  value STM32G0C1METx  Reference: U
ki_keywords: Arm Cortex-M0+ STM32G0 STM32G0x1; ki_description: STMicroelectronics Arm Cortex-M0+ MCU, 512KB flash, 144KB RAM, 64 MHz, 1.7-3.6V, 74 GPIO, LQFP80; ki_fp_filters: LQFP*12x12mm*P0.5mm*; Footprint: Package_QFP:LQFP-80_12x12mm_P0.5mm; Datasheet: https://www.st.com/resource/en/datasheet/stm32g0c1me.pdf
pins: 1 PB9, 2 PC10, 3 PC11, 4 PC12, 5 PC13, 6 PC14, 7 PC15, 8 VBAT, 9 VREF+, 10 VDD, 11 VSS, 12 PF0, 13 PF1, 14 PF2, 15 PC0, 16 PC1, 17 PC2, 18 PC3, 19 PA0, 20 PA1, 21 PA2, 22 PA3, 23 PA4, 24 PA5, 25 PA6, 26 PA7, 27 PC4, 28 PC5, 29 PB0, 30 PB1, 31 PB2, 32 PE7, 33 PE8, 34 PE9, 35 PE10, 36 PB10, 37 PB11, 38 PB12, 39 PB13, 40 PB14, 41 PB15, 42 PA8, 43 PA9/UCPD1_DBCC1, 44 PC6, 45 PC7, 46 PD8, 47 PD9, 48 PD10, 49 PD11, 50 VSS hidden, 51 VDDIO2, 52 PD12, 53 PD13, 54 PD14, 55 PD15, 56 PA10/UCPD1_DBCC2, 57 PA11/PA9, 58 PA12/PA10, 59 PA13, 60 PA14, 61 PA15, 62 PC8, 63 PC9, 64 PD0, 65 PD1, 66 PD2, 67 PD3, 68 PD4, 69 PD5, 70 PD6, 71 PD7, 72 PB3, 73 PB4, 74 PB5, 75 PE0, 76 PE1, 77 PE3, 78 PB6, 79 PB7, 80 PB8

## STM32G0C1NEYx
designator *  value STM32G0C1NEYx  Reference: U
ki_keywords: Arm Cortex-M0+ STM32G0 STM32G0x1; ki_description: STMicroelectronics Arm Cortex-M0+ MCU, 512KB flash, 144KB RAM, 64 MHz, 1.7-3.6V, 46 GPIO, WLCSP52; Footprint: Package_CSP:ST_WLCSP-52_3.09x3.15mm_P0.4mm_Stagger; Datasheet: https://www.st.com/resource/en/datasheet/stm32g0c1ne.pdf; ki_fp_filters: *
pins: A2 PA15, A4 PD0, A6 PD3, A8 PB3, A10 PB5, A12 PB8, B1 PA12/PA10, B3 PA13, B5 PA14, B7 PD2, B9 PB4, B11 PC13, B13 PC14, C2 PA11/PA9, C4 PA10/UCPD1_DBCC2, C6 PD1, C8 PB6, C10 VBAT, C12 PC15, D1 VDDIO2, D3 PC7, D5 PC6, D7 PB7, D9 PB9, D11 VREF+, D13 VDD, E2 VSS, E4 PA9/UCPD1_DBCC1, E6 PB12, E8 PA2, E10 PA1, E12 VSS hidden, F1 PA8, F3 PB15, F5 PB11, F7 PA6, F9 PA5, F11 PF2, F13 PF0, G2 PB14, G4 PB2, G6 PC5, G8 PC4, G10 PA4, G12 PF1, H1 PB13, H3 PB10, H5 PB1, H7 PB0, H9 PA7, H11 PA3, H13 PA0

## STM32G0C1R_C-E_IxN
designator *  value STM32G0C1R_C-E_IxN  Reference: U
ki_keywords: Arm Cortex-M0+ STM32G0 STM32G0x1; ki_description: STMicroelectronics Arm Cortex-M0+ MCU, 256-512KB flash, 144KB RAM, 64 MHz, 1.7-3.6V, 58 GPIO, UFBGA64; ki_fp_filters: *UFBGA*5x5mm*Layout8x8*P0.5mm*; Footprint: Package_BGA:UFBGA-64_5x5mm_Layout8x8_P0.5mm; Datasheet: https://www.st.com/resource/en/datasheet/stm32g0c1rc.pdf
pins: A1 PC11, A2 PC10, A3 PB7, A4 PB6, A5 PD6, A6 PD2, A7 PD0, A8 PC8, B1 PC15, B2 PC12, B3 PB8, B4 PB3, B5 PD5, B6 PD1, B7 PC9, B8 PA12/PA10, C1 PC14, C2 PC13, C3 PB9, C4 PB4, C5 PD4, C6 PA15, C7 PA14, C8 PA11/PA9, D1 VDD, D2 VREF+, D3 VBAT, D4 PB5, D5 PD3, D6 PA10/UCPD1_DBCC2, D7 PA13, D8 VDDIO2, E1 VSS, E2 PF2, E3 PC0, E4 PA7, E5 PC7, E6 PA9/UCPD1_DBCC1, E7 PC6, E8 VSS hidden, F1 PF0, F2 PC1, F3 PA3, F4 PA6, F5 PB0, F6 PB14, F7 PB15, F8 PA8, G1 PF1, G2 PC2, G3 PA2, G4 PA5, G5 PB1, G6 PB10, G7 PB12, G8 PB13, H1 PC3, H2 PA0, H3 PA1, H4 PA4, H5 PC4, H6 PC5, H7 PB2, H8 PB11

## STM32G0C1R_C-E_Tx
designator *  value STM32G0C1R_C-E_Tx  Reference: U
ki_keywords: Arm Cortex-M0+ STM32G0 STM32G0x1; ki_description: STMicroelectronics Arm Cortex-M0+ MCU, 256-512KB flash, 144KB RAM, 64 MHz, 1.7-3.6V, 60 GPIO, LQFP64; ki_fp_filters: LQFP*10x10mm*P0.5mm*; Footprint: Package_QFP:LQFP-64_10x10mm_P0.5mm; Datasheet: https://www.st.com/resource/en/datasheet/stm32g0c1rc.pdf
pins: 1 PC11, 2 PC12, 3 PC13, 4 PC14, 5 PC15, 6 VBAT, 7 VREF+, 8 VDD, 9 VSS, 10 PF0, 11 PF1, 12 PF2, 13 PC0, 14 PC1, 15 PC2, 16 PC3, 17 PA0, 18 PA1, 19 PA2, 20 PA3, 21 PA4, 22 PA5, 23 PA6, 24 PA7, 25 PC4, 26 PC5, 27 PB0, 28 PB1, 29 PB2, 30 PB10, 31 PB11, 32 PB12, 33 PB13, 34 PB14, 35 PB15, 36 PA8, 37 PA9/UCPD1_DBCC1, 38 PC6, 39 PC7, 40 PD8, 41 PD9, 42 PA10/UCPD1_DBCC2, 43 PA11/PA9, 44 PA12/PA10, 45 PA13, 46 PA14, 47 PA15, 48 PC8, 49 PC9, 50 PD0, 51 PD1, 52 PD2, 53 PD3, 54 PD4, 55 PD5, 56 PD6, 57 PB3, 58 PB4, 59 PB5, 60 PB6, 61 PB7, 62 PB8, 63 PB9, 64 PC10

## STM32G0C1R_C-E_TxN
designator *  value STM32G0C1R_C-E_TxN  Reference: U
ki_keywords: Arm Cortex-M0+ STM32G0 STM32G0x1; ki_description: STMicroelectronics Arm Cortex-M0+ MCU, 256-512KB flash, 144KB RAM, 64 MHz, 1.7-3.6V, 58 GPIO, LQFP64; ki_fp_filters: LQFP*10x10mm*P0.5mm*; Footprint: Package_QFP:LQFP-64_10x10mm_P0.5mm; Datasheet: https://www.st.com/resource/en/datasheet/stm32g0c1rc.pdf
pins: 1 PC11, 2 PC12, 3 PC13, 4 PC14, 5 PC15, 6 VBAT, 7 VREF+, 8 VDD, 9 VSS, 10 PF0, 11 PF1, 12 PF2, 13 PC0, 14 PC1, 15 PC2, 16 PC3, 17 PA0, 18 PA1, 19 PA2, 20 PA3, 21 PA4, 22 PA5, 23 PA6, 24 PA7, 25 PC4, 26 PC5, 27 PB0, 28 PB1, 29 PB2, 30 PB10, 31 PB11, 32 PB12, 33 PB13, 34 PB14, 35 PB15, 36 PA8, 37 PA9/UCPD1_DBCC1, 38 PC6, 39 PC7, 40 VSS hidden, 41 VDDIO2, 42 PA10/UCPD1_DBCC2, 43 PA11/PA9, 44 PA12/PA10, 45 PA13, 46 PA14, 47 PA15, 48 PC8, 49 PC9, 50 PD0, 51 PD1, 52 PD2, 53 PD3, 54 PD4, 55 PD5, 56 PD6, 57 PB3, 58 PB4, 59 PB5, 60 PB6, 61 PB7, 62 PB8, 63 PB9, 64 PC10

## STM32G0C1RCIxN
designator *  value STM32G0C1RCIxN  Reference: U
ki_keywords: Arm Cortex-M0+ STM32G0 STM32G0x1; ki_description: STMicroelectronics Arm Cortex-M0+ MCU, 256KB flash, 144KB RAM, 64 MHz, 1.7-3.6V, 58 GPIO, UFBGA64; ki_fp_filters: *UFBGA*5x5mm*Layout8x8*P0.5mm*; Footprint: Package_BGA:UFBGA-64_5x5mm_Layout8x8_P0.5mm; Datasheet: https://www.st.com/resource/en/datasheet/stm32g0c1rc.pdf
pins: A1 PC11, A2 PC10, A3 PB7, A4 PB6, A5 PD6, A6 PD2, A7 PD0, A8 PC8, B1 PC15, B2 PC12, B3 PB8, B4 PB3, B5 PD5, B6 PD1, B7 PC9, B8 PA12/PA10, C1 PC14, C2 PC13, C3 PB9, C4 PB4, C5 PD4, C6 PA15, C7 PA14, C8 PA11/PA9, D1 VDD, D2 VREF+, D3 VBAT, D4 PB5, D5 PD3, D6 PA10/UCPD1_DBCC2, D7 PA13, D8 VDDIO2, E1 VSS, E2 PF2, E3 PC0, E4 PA7, E5 PC7, E6 PA9/UCPD1_DBCC1, E7 PC6, E8 VSS hidden, F1 PF0, F2 PC1, F3 PA3, F4 PA6, F5 PB0, F6 PB14, F7 PB15, F8 PA8, G1 PF1, G2 PC2, G3 PA2, G4 PA5, G5 PB1, G6 PB10, G7 PB12, G8 PB13, H1 PC3, H2 PA0, H3 PA1, H4 PA4, H5 PC4, H6 PC5, H7 PB2, H8 PB11

## STM32G0C1RCTx
designator *  value STM32G0C1RCTx  Reference: U
ki_keywords: Arm Cortex-M0+ STM32G0 STM32G0x1; ki_description: STMicroelectronics Arm Cortex-M0+ MCU, 256KB flash, 144KB RAM, 64 MHz, 1.7-3.6V, 60 GPIO, LQFP64; ki_fp_filters: LQFP*10x10mm*P0.5mm*; Footprint: Package_QFP:LQFP-64_10x10mm_P0.5mm; Datasheet: https://www.st.com/resource/en/datasheet/stm32g0c1rc.pdf
pins: 1 PC11, 2 PC12, 3 PC13, 4 PC14, 5 PC15, 6 VBAT, 7 VREF+, 8 VDD, 9 VSS, 10 PF0, 11 PF1, 12 PF2, 13 PC0, 14 PC1, 15 PC2, 16 PC3, 17 PA0, 18 PA1, 19 PA2, 20 PA3, 21 PA4, 22 PA5, 23 PA6, 24 PA7, 25 PC4, 26 PC5, 27 PB0, 28 PB1, 29 PB2, 30 PB10, 31 PB11, 32 PB12, 33 PB13, 34 PB14, 35 PB15, 36 PA8, 37 PA9/UCPD1_DBCC1, 38 PC6, 39 PC7, 40 PD8, 41 PD9, 42 PA10/UCPD1_DBCC2, 43 PA11/PA9, 44 PA12/PA10, 45 PA13, 46 PA14, 47 PA15, 48 PC8, 49 PC9, 50 PD0, 51 PD1, 52 PD2, 53 PD3, 54 PD4, 55 PD5, 56 PD6, 57 PB3, 58 PB4, 59 PB5, 60 PB6, 61 PB7, 62 PB8, 63 PB9, 64 PC10

## STM32G0C1RCTxN
designator *  value STM32G0C1RCTxN  Reference: U
ki_keywords: Arm Cortex-M0+ STM32G0 STM32G0x1; ki_description: STMicroelectronics Arm Cortex-M0+ MCU, 256KB flash, 144KB RAM, 64 MHz, 1.7-3.6V, 58 GPIO, LQFP64; ki_fp_filters: LQFP*10x10mm*P0.5mm*; Footprint: Package_QFP:LQFP-64_10x10mm_P0.5mm; Datasheet: https://www.st.com/resource/en/datasheet/stm32g0c1rc.pdf
pins: 1 PC11, 2 PC12, 3 PC13, 4 PC14, 5 PC15, 6 VBAT, 7 VREF+, 8 VDD, 9 VSS, 10 PF0, 11 PF1, 12 PF2, 13 PC0, 14 PC1, 15 PC2, 16 PC3, 17 PA0, 18 PA1, 19 PA2, 20 PA3, 21 PA4, 22 PA5, 23 PA6, 24 PA7, 25 PC4, 26 PC5, 27 PB0, 28 PB1, 29 PB2, 30 PB10, 31 PB11, 32 PB12, 33 PB13, 34 PB14, 35 PB15, 36 PA8, 37 PA9/UCPD1_DBCC1, 38 PC6, 39 PC7, 40 VSS hidden, 41 VDDIO2, 42 PA10/UCPD1_DBCC2, 43 PA11/PA9, 44 PA12/PA10, 45 PA13, 46 PA14, 47 PA15, 48 PC8, 49 PC9, 50 PD0, 51 PD1, 52 PD2, 53 PD3, 54 PD4, 55 PD5, 56 PD6, 57 PB3, 58 PB4, 59 PB5, 60 PB6, 61 PB7, 62 PB8, 63 PB9, 64 PC10

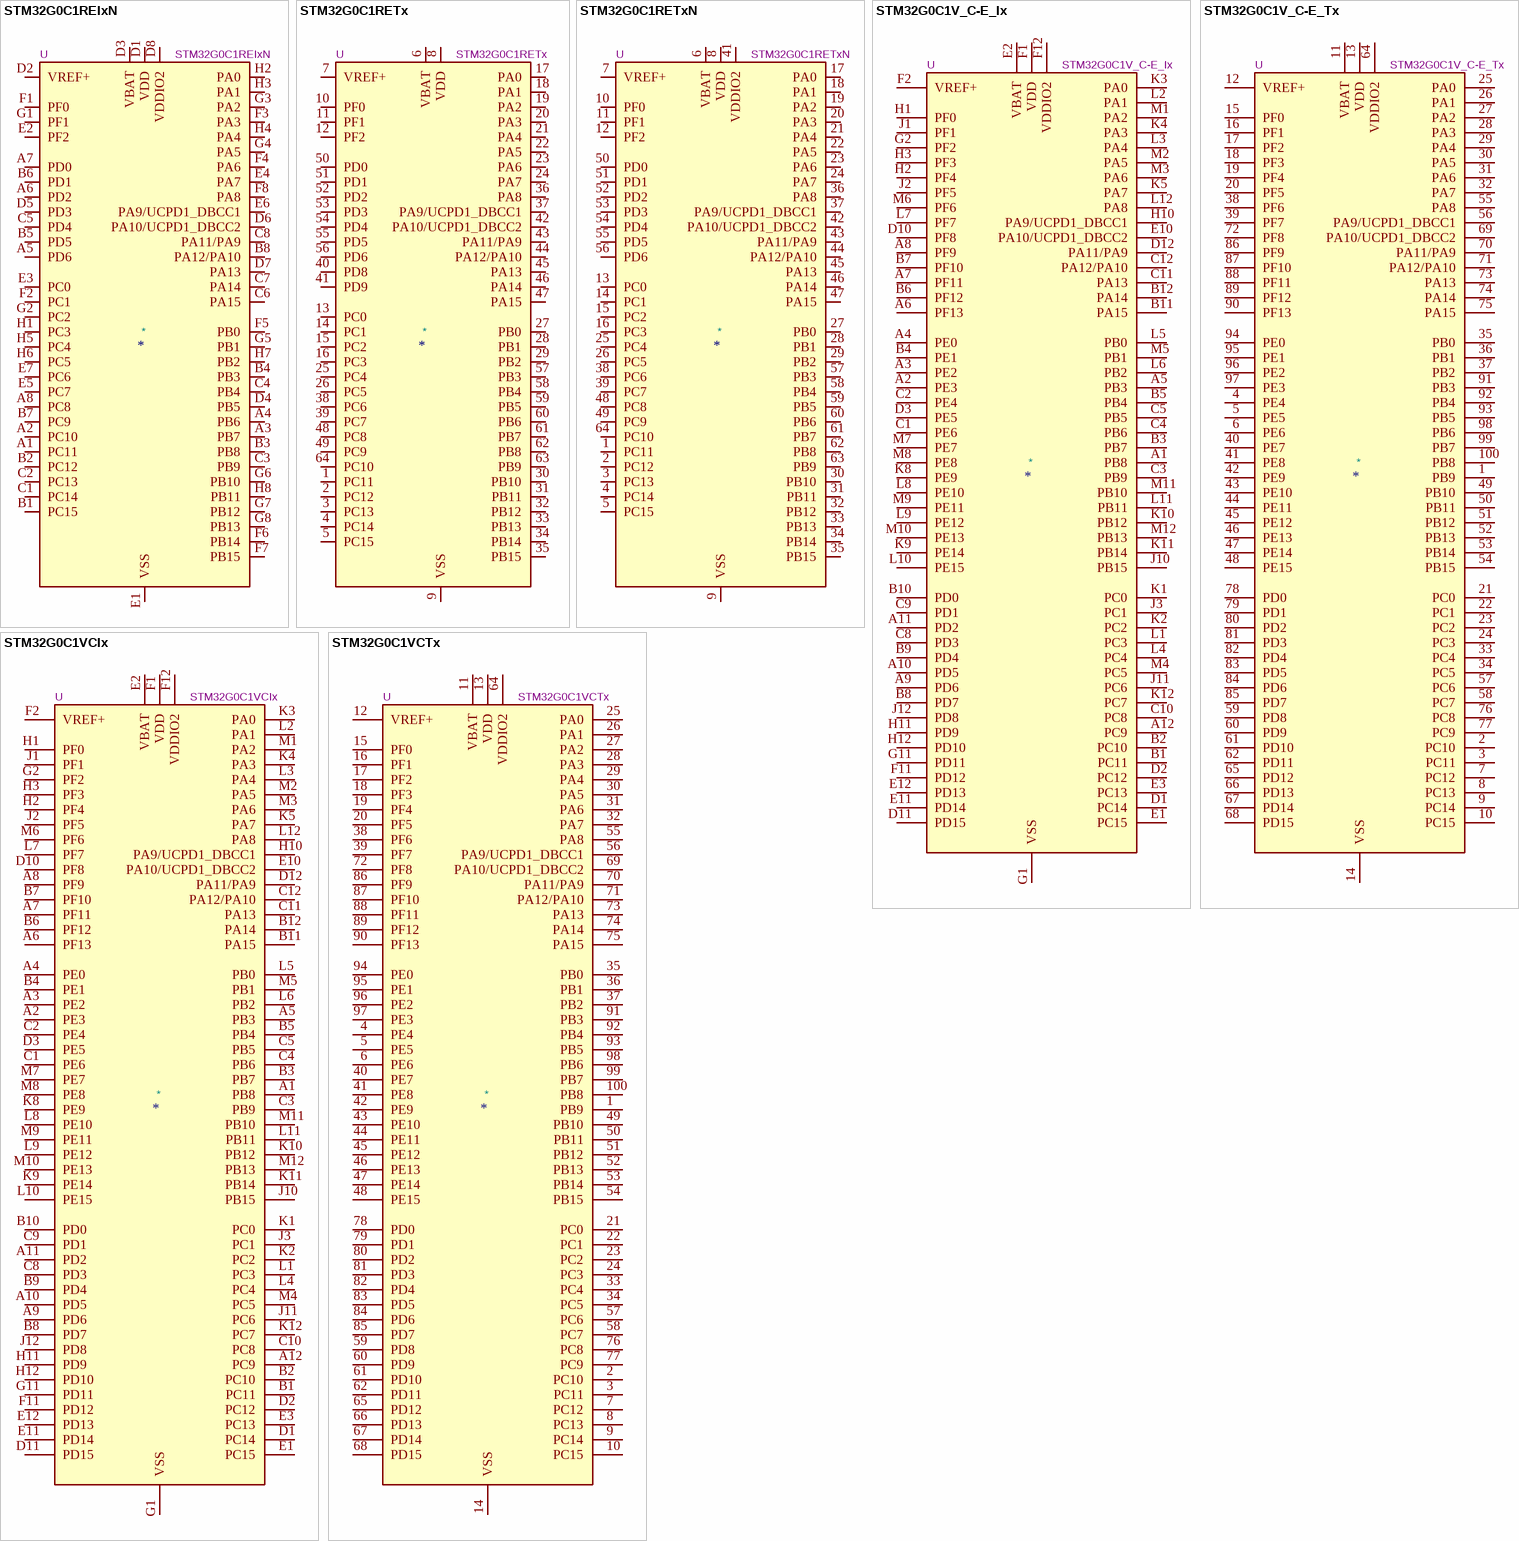
[diagram p9: symbols STM32G0C1REIxN to STM32G0C1VCTx]

## STM32G0C1REIxN
designator *  value STM32G0C1REIxN  Reference: U
ki_keywords: Arm Cortex-M0+ STM32G0 STM32G0x1; ki_description: STMicroelectronics Arm Cortex-M0+ MCU, 512KB flash, 144KB RAM, 64 MHz, 1.7-3.6V, 58 GPIO, UFBGA64; ki_fp_filters: *UFBGA*5x5mm*Layout8x8*P0.5mm*; Footprint: Package_BGA:UFBGA-64_5x5mm_Layout8x8_P0.5mm; Datasheet: https://www.st.com/resource/en/datasheet/stm32g0c1re.pdf
pins: A1 PC11, A2 PC10, A3 PB7, A4 PB6, A5 PD6, A6 PD2, A7 PD0, A8 PC8, B1 PC15, B2 PC12, B3 PB8, B4 PB3, B5 PD5, B6 PD1, B7 PC9, B8 PA12/PA10, C1 PC14, C2 PC13, C3 PB9, C4 PB4, C5 PD4, C6 PA15, C7 PA14, C8 PA11/PA9, D1 VDD, D2 VREF+, D3 VBAT, D4 PB5, D5 PD3, D6 PA10/UCPD1_DBCC2, D7 PA13, D8 VDDIO2, E1 VSS, E2 PF2, E3 PC0, E4 PA7, E5 PC7, E6 PA9/UCPD1_DBCC1, E7 PC6, E8 VSS hidden, F1 PF0, F2 PC1, F3 PA3, F4 PA6, F5 PB0, F6 PB14, F7 PB15, F8 PA8, G1 PF1, G2 PC2, G3 PA2, G4 PA5, G5 PB1, G6 PB10, G7 PB12, G8 PB13, H1 PC3, H2 PA0, H3 PA1, H4 PA4, H5 PC4, H6 PC5, H7 PB2, H8 PB11

## STM32G0C1RETx
designator *  value STM32G0C1RETx  Reference: U
ki_keywords: Arm Cortex-M0+ STM32G0 STM32G0x1; ki_description: STMicroelectronics Arm Cortex-M0+ MCU, 512KB flash, 144KB RAM, 64 MHz, 1.7-3.6V, 60 GPIO, LQFP64; ki_fp_filters: LQFP*10x10mm*P0.5mm*; Footprint: Package_QFP:LQFP-64_10x10mm_P0.5mm; Datasheet: https://www.st.com/resource/en/datasheet/stm32g0c1re.pdf
pins: 1 PC11, 2 PC12, 3 PC13, 4 PC14, 5 PC15, 6 VBAT, 7 VREF+, 8 VDD, 9 VSS, 10 PF0, 11 PF1, 12 PF2, 13 PC0, 14 PC1, 15 PC2, 16 PC3, 17 PA0, 18 PA1, 19 PA2, 20 PA3, 21 PA4, 22 PA5, 23 PA6, 24 PA7, 25 PC4, 26 PC5, 27 PB0, 28 PB1, 29 PB2, 30 PB10, 31 PB11, 32 PB12, 33 PB13, 34 PB14, 35 PB15, 36 PA8, 37 PA9/UCPD1_DBCC1, 38 PC6, 39 PC7, 40 PD8, 41 PD9, 42 PA10/UCPD1_DBCC2, 43 PA11/PA9, 44 PA12/PA10, 45 PA13, 46 PA14, 47 PA15, 48 PC8, 49 PC9, 50 PD0, 51 PD1, 52 PD2, 53 PD3, 54 PD4, 55 PD5, 56 PD6, 57 PB3, 58 PB4, 59 PB5, 60 PB6, 61 PB7, 62 PB8, 63 PB9, 64 PC10

## STM32G0C1RETxN
designator *  value STM32G0C1RETxN  Reference: U
ki_keywords: Arm Cortex-M0+ STM32G0 STM32G0x1; ki_description: STMicroelectronics Arm Cortex-M0+ MCU, 512KB flash, 144KB RAM, 64 MHz, 1.7-3.6V, 58 GPIO, LQFP64; ki_fp_filters: LQFP*10x10mm*P0.5mm*; Footprint: Package_QFP:LQFP-64_10x10mm_P0.5mm; Datasheet: https://www.st.com/resource/en/datasheet/stm32g0c1re.pdf
pins: 1 PC11, 2 PC12, 3 PC13, 4 PC14, 5 PC15, 6 VBAT, 7 VREF+, 8 VDD, 9 VSS, 10 PF0, 11 PF1, 12 PF2, 13 PC0, 14 PC1, 15 PC2, 16 PC3, 17 PA0, 18 PA1, 19 PA2, 20 PA3, 21 PA4, 22 PA5, 23 PA6, 24 PA7, 25 PC4, 26 PC5, 27 PB0, 28 PB1, 29 PB2, 30 PB10, 31 PB11, 32 PB12, 33 PB13, 34 PB14, 35 PB15, 36 PA8, 37 PA9/UCPD1_DBCC1, 38 PC6, 39 PC7, 40 VSS hidden, 41 VDDIO2, 42 PA10/UCPD1_DBCC2, 43 PA11/PA9, 44 PA12/PA10, 45 PA13, 46 PA14, 47 PA15, 48 PC8, 49 PC9, 50 PD0, 51 PD1, 52 PD2, 53 PD3, 54 PD4, 55 PD5, 56 PD6, 57 PB3, 58 PB4, 59 PB5, 60 PB6, 61 PB7, 62 PB8, 63 PB9, 64 PC10

## STM32G0C1V_C-E_Ix
designator *  value STM32G0C1V_C-E_Ix  Reference: U
ki_keywords: Arm Cortex-M0+ STM32G0 STM32G0x1; ki_description: STMicroelectronics Arm Cortex-M0+ MCU, 256-512KB flash, 144KB RAM, 64 MHz, 1.7-3.6V, 94 GPIO, UFBGA100; ki_fp_filters: *UFBGA*7x7mm*Layout12x12*P0.5mm*; Footprint: Package_BGA:UFBGA-100_7x7mm_Layout12x12_P0.5mm; Datasheet: https://www.st.com/resource/en/datasheet/stm32g0c1vc.pdf
pins: A1 PB8, A2 PE3, A3 PE2, A4 PE0, A5 PB3, A6 PF13, A7 PF11, A8 PF9, A9 PD6, A10 PD5, A11 PD2, A12 PC9, B1 PC11, B2 PC10, B3 PB7, B4 PE1, B5 PB4, B6 PF12, B7 PF10, B8 PD7, B9 PD4, B10 PD0, B11 PA15, B12 PA14, C1 PE6, C2 PE4, C3 PB9, C4 PB6, C5 PB5, C8 PD3, C9 PD1, C10 PC8, C11 PA13, C12 PA12/PA10, D1 PC14, D2 PC12, D3 PE5, D10 PF8, D11 PD15, D12 PA11/PA9, E1 PC15, E2 VBAT, E3 PC13, E10 PA10/UCPD1_DBCC2, E11 PD14, E12 PD13, F1 VDD, F2 VREF+, F11 PD12, F12 VDDIO2, G1 VSS, G2 PF2, G11 PD11, G12 VSS hidden, H1 PF0, H2 PF4, H3 PF3, H10 PA9/UCPD1_DBCC1, H11 PD9, H12 PD10, J1 PF1, J2 PF5, J3 PC1, J10 PB15, J11 PC6, J12 PD8, K1 PC0, K2 PC2, K3 PA0, K4 PA3, K5 PA7, K8 PE9, K9 PE14, K10 PB12, K11 PB14, K12 PC7, L1 PC3, L2 PA1, L3 PA4, L4 PC4, L5 PB0, L6 PB2, L7 PF7, L8 PE10, L9 PE12, L10 PE15, L11 PB11, L12 PA8, M1 PA2, M2 PA5, M3 PA6, M4 PC5, M5 PB1, M6 PF6, M7 PE7, M8 PE8, M9 PE11, M10 PE13, M11 PB10, M12 PB13

## STM32G0C1V_C-E_Tx
designator *  value STM32G0C1V_C-E_Tx  Reference: U
ki_keywords: Arm Cortex-M0+ STM32G0 STM32G0x1; ki_description: STMicroelectronics Arm Cortex-M0+ MCU, 256-512KB flash, 144KB RAM, 64 MHz, 1.7-3.6V, 94 GPIO, LQFP100; ki_fp_filters: LQFP*14x14mm*P0.5mm*; Footprint: Package_QFP:LQFP-100_14x14mm_P0.5mm; Datasheet: https://www.st.com/resource/en/datasheet/stm32g0c1vc.pdf
pins: 1 PB9, 2 PC10, 3 PC11, 4 PE4, 5 PE5, 6 PE6, 7 PC12, 8 PC13, 9 PC14, 10 PC15, 11 VBAT, 12 VREF+, 13 VDD, 14 VSS, 15 PF0, 16 PF1, 17 PF2, 18 PF3, 19 PF4, 20 PF5, 21 PC0, 22 PC1, 23 PC2, 24 PC3, 25 PA0, 26 PA1, 27 PA2, 28 PA3, 29 PA4, 30 PA5, 31 PA6, 32 PA7, 33 PC4, 34 PC5, 35 PB0, 36 PB1, 37 PB2, 38 PF6, 39 PF7, 40 PE7, 41 PE8, 42 PE9, 43 PE10, 44 PE11, 45 PE12, 46 PE13, 47 PE14, 48 PE15, 49 PB10, 50 PB11, 51 PB12, 52 PB13, 53 PB14, 54 PB15, 55 PA8, 56 PA9/UCPD1_DBCC1, 57 PC6, 58 PC7, 59 PD8, 60 PD9, 61 PD10, 62 PD11, 63 VSS hidden, 64 VDDIO2, 65 PD12, 66 PD13, 67 PD14, 68 PD15, 69 PA10/UCPD1_DBCC2, 70 PA11/PA9, 71 PA12/PA10, 72 PF8, 73 PA13, 74 PA14, 75 PA15, 76 PC8, 77 PC9, 78 PD0, 79 PD1, 80 PD2, 81 PD3, 82 PD4, 83 PD5, 84 PD6, 85 PD7, 86 PF9, 87 PF10, 88 PF11, 89 PF12, 90 PF13, 91 PB3, 92 PB4, 93 PB5, 94 PE0, 95 PE1, 96 PE2, 97 PE3, 98 PB6, 99 PB7, 100 PB8

## STM32G0C1VCIx
designator *  value STM32G0C1VCIx  Reference: U
ki_keywords: Arm Cortex-M0+ STM32G0 STM32G0x1; ki_description: STMicroelectronics Arm Cortex-M0+ MCU, 256KB flash, 144KB RAM, 64 MHz, 1.7-3.6V, 94 GPIO, UFBGA100; ki_fp_filters: *UFBGA*7x7mm*Layout12x12*P0.5mm*; Footprint: Package_BGA:UFBGA-100_7x7mm_Layout12x12_P0.5mm; Datasheet: https://www.st.com/resource/en/datasheet/stm32g0c1vc.pdf
pins: A1 PB8, A2 PE3, A3 PE2, A4 PE0, A5 PB3, A6 PF13, A7 PF11, A8 PF9, A9 PD6, A10 PD5, A11 PD2, A12 PC9, B1 PC11, B2 PC10, B3 PB7, B4 PE1, B5 PB4, B6 PF12, B7 PF10, B8 PD7, B9 PD4, B10 PD0, B11 PA15, B12 PA14, C1 PE6, C2 PE4, C3 PB9, C4 PB6, C5 PB5, C8 PD3, C9 PD1, C10 PC8, C11 PA13, C12 PA12/PA10, D1 PC14, D2 PC12, D3 PE5, D10 PF8, D11 PD15, D12 PA11/PA9, E1 PC15, E2 VBAT, E3 PC13, E10 PA10/UCPD1_DBCC2, E11 PD14, E12 PD13, F1 VDD, F2 VREF+, F11 PD12, F12 VDDIO2, G1 VSS, G2 PF2, G11 PD11, G12 VSS hidden, H1 PF0, H2 PF4, H3 PF3, H10 PA9/UCPD1_DBCC1, H11 PD9, H12 PD10, J1 PF1, J2 PF5, J3 PC1, J10 PB15, J11 PC6, J12 PD8, K1 PC0, K2 PC2, K3 PA0, K4 PA3, K5 PA7, K8 PE9, K9 PE14, K10 PB12, K11 PB14, K12 PC7, L1 PC3, L2 PA1, L3 PA4, L4 PC4, L5 PB0, L6 PB2, L7 PF7, L8 PE10, L9 PE12, L10 PE15, L11 PB11, L12 PA8, M1 PA2, M2 PA5, M3 PA6, M4 PC5, M5 PB1, M6 PF6, M7 PE7, M8 PE8, M9 PE11, M10 PE13, M11 PB10, M12 PB13

## STM32G0C1VCTx
designator *  value STM32G0C1VCTx  Reference: U
ki_keywords: Arm Cortex-M0+ STM32G0 STM32G0x1; ki_description: STMicroelectronics Arm Cortex-M0+ MCU, 256KB flash, 144KB RAM, 64 MHz, 1.7-3.6V, 94 GPIO, LQFP100; ki_fp_filters: LQFP*14x14mm*P0.5mm*; Footprint: Package_QFP:LQFP-100_14x14mm_P0.5mm; Datasheet: https://www.st.com/resource/en/datasheet/stm32g0c1vc.pdf
pins: 1 PB9, 2 PC10, 3 PC11, 4 PE4, 5 PE5, 6 PE6, 7 PC12, 8 PC13, 9 PC14, 10 PC15, 11 VBAT, 12 VREF+, 13 VDD, 14 VSS, 15 PF0, 16 PF1, 17 PF2, 18 PF3, 19 PF4, 20 PF5, 21 PC0, 22 PC1, 23 PC2, 24 PC3, 25 PA0, 26 PA1, 27 PA2, 28 PA3, 29 PA4, 30 PA5, 31 PA6, 32 PA7, 33 PC4, 34 PC5, 35 PB0, 36 PB1, 37 PB2, 38 PF6, 39 PF7, 40 PE7, 41 PE8, 42 PE9, 43 PE10, 44 PE11, 45 PE12, 46 PE13, 47 PE14, 48 PE15, 49 PB10, 50 PB11, 51 PB12, 52 PB13, 53 PB14, 54 PB15, 55 PA8, 56 PA9/UCPD1_DBCC1, 57 PC6, 58 PC7, 59 PD8, 60 PD9, 61 PD10, 62 PD11, 63 VSS hidden, 64 VDDIO2, 65 PD12, 66 PD13, 67 PD14, 68 PD15, 69 PA10/UCPD1_DBCC2, 70 PA11/PA9, 71 PA12/PA10, 72 PF8, 73 PA13, 74 PA14, 75 PA15, 76 PC8, 77 PC9, 78 PD0, 79 PD1, 80 PD2, 81 PD3, 82 PD4, 83 PD5, 84 PD6, 85 PD7, 86 PF9, 87 PF10, 88 PF11, 89 PF12, 90 PF13, 91 PB3, 92 PB4, 93 PB5, 94 PE0, 95 PE1, 96 PE2, 97 PE3, 98 PB6, 99 PB7, 100 PB8

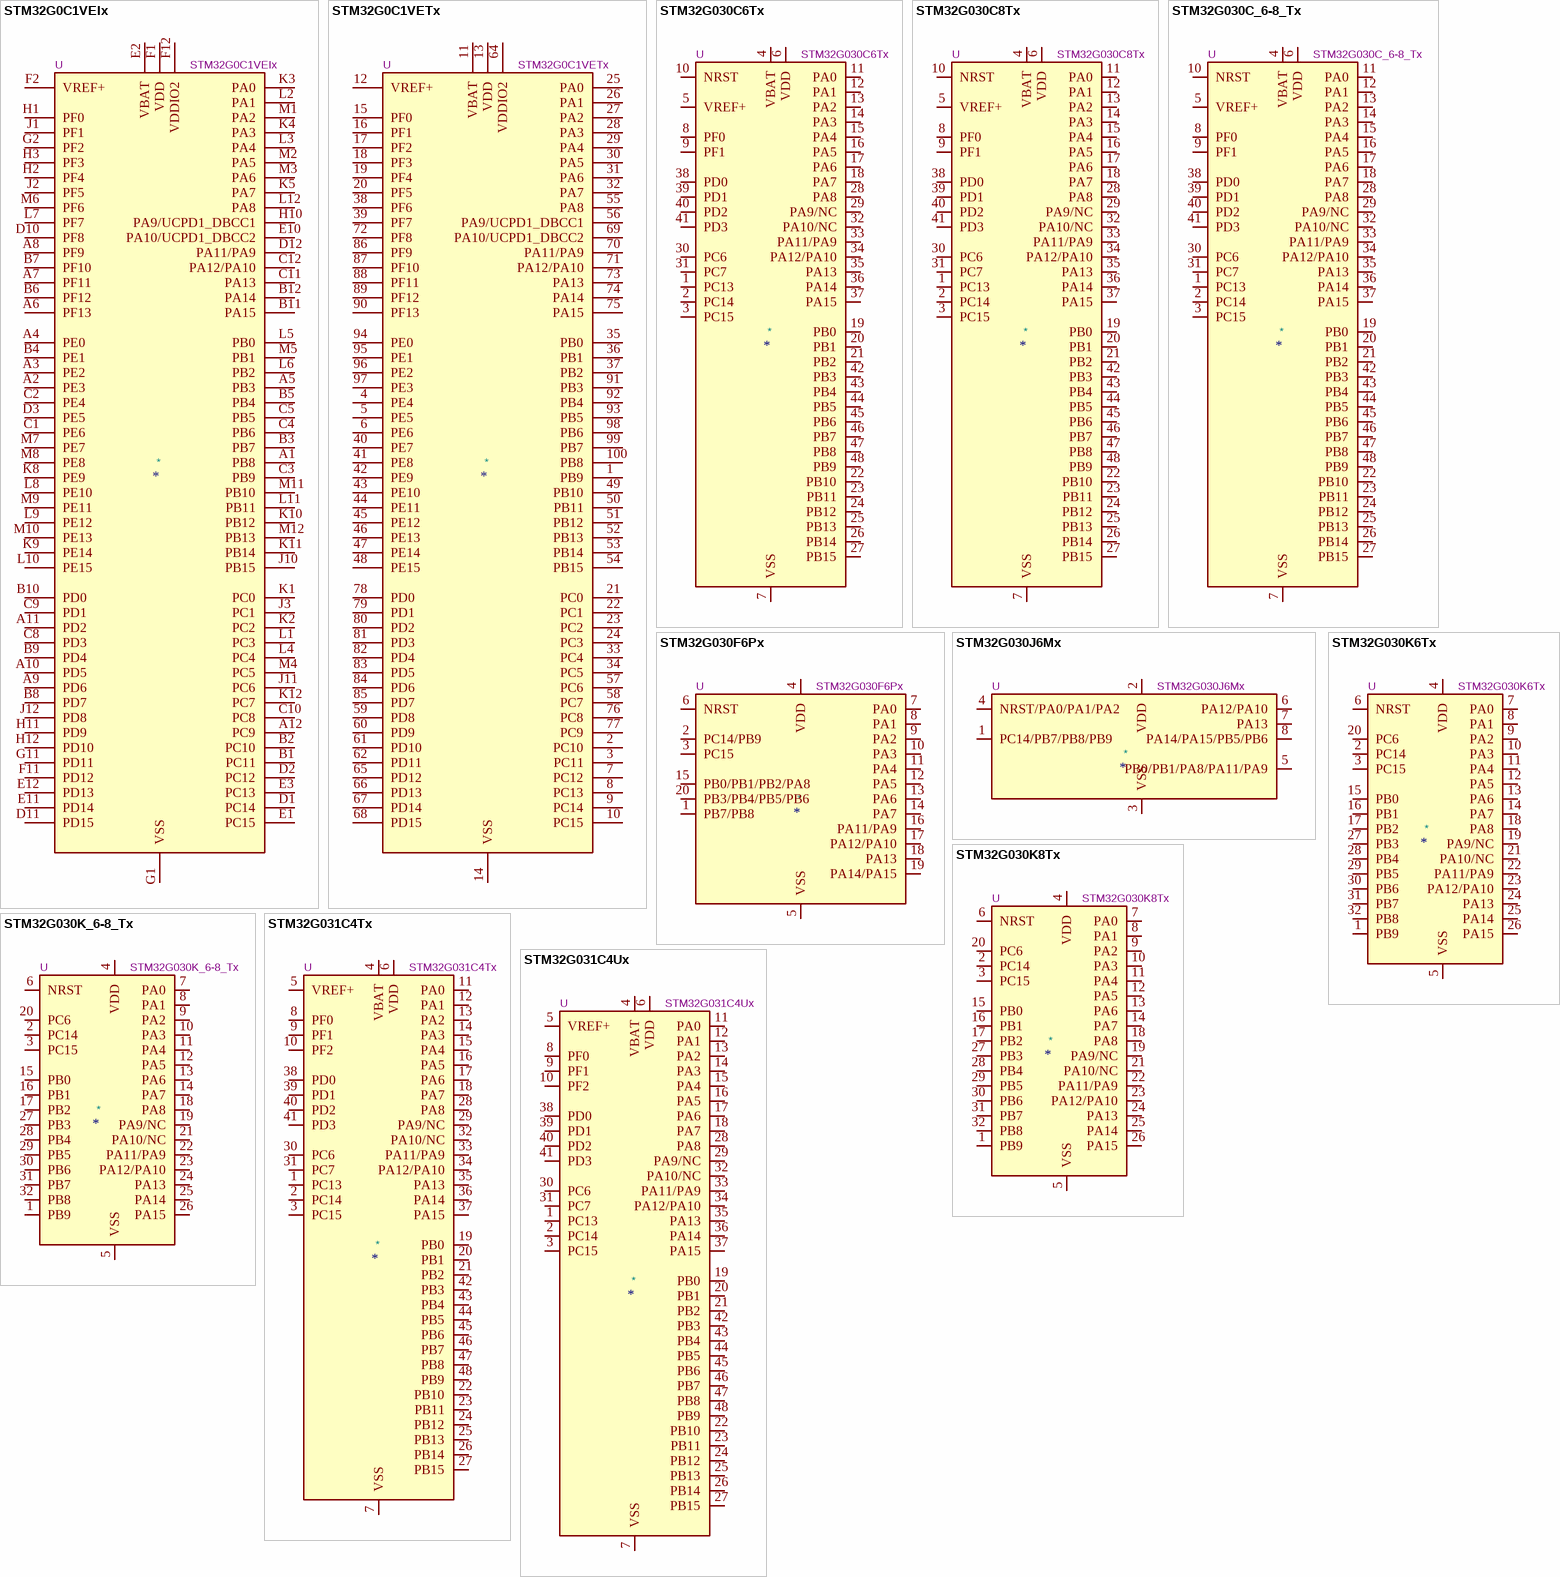
[diagram p10: symbols STM32G0C1VEIx to STM32G031C4Ux]

## STM32G0C1VEIx
designator *  value STM32G0C1VEIx  Reference: U
ki_keywords: Arm Cortex-M0+ STM32G0 STM32G0x1; ki_description: STMicroelectronics Arm Cortex-M0+ MCU, 512KB flash, 144KB RAM, 64 MHz, 1.7-3.6V, 94 GPIO, UFBGA100; ki_fp_filters: *UFBGA*7x7mm*Layout12x12*P0.5mm*; Footprint: Package_BGA:UFBGA-100_7x7mm_Layout12x12_P0.5mm; Datasheet: https://www.st.com/resource/en/datasheet/stm32g0c1ve.pdf
pins: A1 PB8, A2 PE3, A3 PE2, A4 PE0, A5 PB3, A6 PF13, A7 PF11, A8 PF9, A9 PD6, A10 PD5, A11 PD2, A12 PC9, B1 PC11, B2 PC10, B3 PB7, B4 PE1, B5 PB4, B6 PF12, B7 PF10, B8 PD7, B9 PD4, B10 PD0, B11 PA15, B12 PA14, C1 PE6, C2 PE4, C3 PB9, C4 PB6, C5 PB5, C8 PD3, C9 PD1, C10 PC8, C11 PA13, C12 PA12/PA10, D1 PC14, D2 PC12, D3 PE5, D10 PF8, D11 PD15, D12 PA11/PA9, E1 PC15, E2 VBAT, E3 PC13, E10 PA10/UCPD1_DBCC2, E11 PD14, E12 PD13, F1 VDD, F2 VREF+, F11 PD12, F12 VDDIO2, G1 VSS, G2 PF2, G11 PD11, G12 VSS hidden, H1 PF0, H2 PF4, H3 PF3, H10 PA9/UCPD1_DBCC1, H11 PD9, H12 PD10, J1 PF1, J2 PF5, J3 PC1, J10 PB15, J11 PC6, J12 PD8, K1 PC0, K2 PC2, K3 PA0, K4 PA3, K5 PA7, K8 PE9, K9 PE14, K10 PB12, K11 PB14, K12 PC7, L1 PC3, L2 PA1, L3 PA4, L4 PC4, L5 PB0, L6 PB2, L7 PF7, L8 PE10, L9 PE12, L10 PE15, L11 PB11, L12 PA8, M1 PA2, M2 PA5, M3 PA6, M4 PC5, M5 PB1, M6 PF6, M7 PE7, M8 PE8, M9 PE11, M10 PE13, M11 PB10, M12 PB13

## STM32G0C1VETx
designator *  value STM32G0C1VETx  Reference: U
ki_keywords: Arm Cortex-M0+ STM32G0 STM32G0x1; ki_description: STMicroelectronics Arm Cortex-M0+ MCU, 512KB flash, 144KB RAM, 64 MHz, 1.7-3.6V, 94 GPIO, LQFP100; ki_fp_filters: LQFP*14x14mm*P0.5mm*; Footprint: Package_QFP:LQFP-100_14x14mm_P0.5mm; Datasheet: https://www.st.com/resource/en/datasheet/stm32g0c1ve.pdf
pins: 1 PB9, 2 PC10, 3 PC11, 4 PE4, 5 PE5, 6 PE6, 7 PC12, 8 PC13, 9 PC14, 10 PC15, 11 VBAT, 12 VREF+, 13 VDD, 14 VSS, 15 PF0, 16 PF1, 17 PF2, 18 PF3, 19 PF4, 20 PF5, 21 PC0, 22 PC1, 23 PC2, 24 PC3, 25 PA0, 26 PA1, 27 PA2, 28 PA3, 29 PA4, 30 PA5, 31 PA6, 32 PA7, 33 PC4, 34 PC5, 35 PB0, 36 PB1, 37 PB2, 38 PF6, 39 PF7, 40 PE7, 41 PE8, 42 PE9, 43 PE10, 44 PE11, 45 PE12, 46 PE13, 47 PE14, 48 PE15, 49 PB10, 50 PB11, 51 PB12, 52 PB13, 53 PB14, 54 PB15, 55 PA8, 56 PA9/UCPD1_DBCC1, 57 PC6, 58 PC7, 59 PD8, 60 PD9, 61 PD10, 62 PD11, 63 VSS hidden, 64 VDDIO2, 65 PD12, 66 PD13, 67 PD14, 68 PD15, 69 PA10/UCPD1_DBCC2, 70 PA11/PA9, 71 PA12/PA10, 72 PF8, 73 PA13, 74 PA14, 75 PA15, 76 PC8, 77 PC9, 78 PD0, 79 PD1, 80 PD2, 81 PD3, 82 PD4, 83 PD5, 84 PD6, 85 PD7, 86 PF9, 87 PF10, 88 PF11, 89 PF12, 90 PF13, 91 PB3, 92 PB4, 93 PB5, 94 PE0, 95 PE1, 96 PE2, 97 PE3, 98 PB6, 99 PB7, 100 PB8

## STM32G030C6Tx
designator *  value STM32G030C6Tx  Reference: U
ki_keywords: Arm Cortex-M0+ STM32G0 STM32G0x0 Value line; ki_description: STMicroelectronics Arm Cortex-M0+ MCU, 32KB flash, 8KB RAM, 64 MHz, 2.0-3.6V, 43 GPIO, LQFP48; ki_fp_filters: LQFP*7x7mm*P0.5mm*; Footprint: Package_QFP:LQFP-48_7x7mm_P0.5mm; Datasheet: https://www.st.com/resource/en/datasheet/stm32g030c6.pdf
pins: 1 PC13, 2 PC14, 3 PC15, 4 VBAT, 5 VREF+, 6 VDD, 7 VSS, 8 PF0, 9 PF1, 10 NRST, 11 PA0, 12 PA1, 13 PA2, 14 PA3, 15 PA4, 16 PA5, 17 PA6, 18 PA7, 19 PB0, 20 PB1, 21 PB2, 22 PB10, 23 PB11, 24 PB12, 25 PB13, 26 PB14, 27 PB15, 28 PA8, 29 PA9/NC, 30 PC6, 31 PC7, 32 PA10/NC, 33 PA11/PA9, 34 PA12/PA10, 35 PA13, 36 PA14, 37 PA15, 38 PD0, 39 PD1, 40 PD2, 41 PD3, 42 PB3, 43 PB4, 44 PB5, 45 PB6, 46 PB7, 47 PB8, 48 PB9

## STM32G030C8Tx
designator *  value STM32G030C8Tx  Reference: U
ki_keywords: Arm Cortex-M0+ STM32G0 STM32G0x0 Value line; ki_description: STMicroelectronics Arm Cortex-M0+ MCU, 64KB flash, 8KB RAM, 64 MHz, 2.0-3.6V, 43 GPIO, LQFP48; ki_fp_filters: LQFP*7x7mm*P0.5mm*; Footprint: Package_QFP:LQFP-48_7x7mm_P0.5mm; Datasheet: https://www.st.com/resource/en/datasheet/stm32g030c8.pdf
pins: 1 PC13, 2 PC14, 3 PC15, 4 VBAT, 5 VREF+, 6 VDD, 7 VSS, 8 PF0, 9 PF1, 10 NRST, 11 PA0, 12 PA1, 13 PA2, 14 PA3, 15 PA4, 16 PA5, 17 PA6, 18 PA7, 19 PB0, 20 PB1, 21 PB2, 22 PB10, 23 PB11, 24 PB12, 25 PB13, 26 PB14, 27 PB15, 28 PA8, 29 PA9/NC, 30 PC6, 31 PC7, 32 PA10/NC, 33 PA11/PA9, 34 PA12/PA10, 35 PA13, 36 PA14, 37 PA15, 38 PD0, 39 PD1, 40 PD2, 41 PD3, 42 PB3, 43 PB4, 44 PB5, 45 PB6, 46 PB7, 47 PB8, 48 PB9

## STM32G030C_6-8_Tx
designator *  value STM32G030C_6-8_Tx  Reference: U
ki_keywords: Arm Cortex-M0+ STM32G0 STM32G0x0 Value line; ki_description: STMicroelectronics Arm Cortex-M0+ MCU, 32-64KB flash, 8KB RAM, 64 MHz, 2.0-3.6V, 43 GPIO, LQFP48; ki_fp_filters: LQFP*7x7mm*P0.5mm*; Footprint: Package_QFP:LQFP-48_7x7mm_P0.5mm; Datasheet: https://www.st.com/resource/en/datasheet/stm32g030c6.pdf
pins: 1 PC13, 2 PC14, 3 PC15, 4 VBAT, 5 VREF+, 6 VDD, 7 VSS, 8 PF0, 9 PF1, 10 NRST, 11 PA0, 12 PA1, 13 PA2, 14 PA3, 15 PA4, 16 PA5, 17 PA6, 18 PA7, 19 PB0, 20 PB1, 21 PB2, 22 PB10, 23 PB11, 24 PB12, 25 PB13, 26 PB14, 27 PB15, 28 PA8, 29 PA9/NC, 30 PC6, 31 PC7, 32 PA10/NC, 33 PA11/PA9, 34 PA12/PA10, 35 PA13, 36 PA14, 37 PA15, 38 PD0, 39 PD1, 40 PD2, 41 PD3, 42 PB3, 43 PB4, 44 PB5, 45 PB6, 46 PB7, 47 PB8, 48 PB9

## STM32G030F6Px
designator *  value STM32G030F6Px  Reference: U
ki_keywords: Arm Cortex-M0+ STM32G0 STM32G0x0 Value line; ki_description: STMicroelectronics Arm Cortex-M0+ MCU, 32KB flash, 8KB RAM, 64 MHz, 2.0-3.6V, 17 GPIO, TSSOP20; ki_fp_filters: TSSOP*4.4x6.5mm*P0.65mm*; Footprint: Package_SO:TSSOP-20_4.4x6.5mm_P0.65mm; Datasheet: https://www.st.com/resource/en/datasheet/stm32g030f6.pdf
pins: 1 PB7/PB8, 2 PC14/PB9, 3 PC15, 4 VDD, 5 VSS, 6 NRST, 7 PA0, 8 PA1, 9 PA2, 10 PA3, 11 PA4, 12 PA5, 13 PA6, 14 PA7, 15 PB0/PB1/PB2/PA8, 16 PA11/PA9, 17 PA12/PA10, 18 PA13, 19 PA14/PA15, 20 PB3/PB4/PB5/PB6

## STM32G030J6Mx
designator *  value STM32G030J6Mx  Reference: U
ki_keywords: Arm Cortex-M0+ STM32G0 STM32G0x0 Value line; ki_description: STMicroelectronics Arm Cortex-M0+ MCU, 32KB flash, 8KB RAM, 64 MHz, 2.0-3.6V, 6 GPIO, SO8N; ki_fp_filters: SO*3.9x4.9mm*P1.27mm*; Footprint: Package_SO:SOIC-8_3.9x4.9mm_P1.27mm; Datasheet: https://www.st.com/resource/en/datasheet/stm32g030j6.pdf
pins: 1 PC14/PB7/PB8/PB9, 2 VDD, 3 VSS, 4 NRST/PA0/PA1/PA2, 5 PB0/PB1/PA8/PA11/PA9, 6 PA12/PA10, 7 PA13, 8 PA14/PA15/PB5/PB6

## STM32G030K6Tx
designator *  value STM32G030K6Tx  Reference: U
ki_keywords: Arm Cortex-M0+ STM32G0 STM32G0x0 Value line; ki_description: STMicroelectronics Arm Cortex-M0+ MCU, 32KB flash, 8KB RAM, 64 MHz, 2.0-3.6V, 29 GPIO, LQFP32; ki_fp_filters: LQFP*7x7mm*P0.8mm*; Footprint: Package_QFP:LQFP-32_7x7mm_P0.8mm; Datasheet: https://www.st.com/resource/en/datasheet/stm32g030k6.pdf
pins: 1 PB9, 2 PC14, 3 PC15, 4 VDD, 5 VSS, 6 NRST, 7 PA0, 8 PA1, 9 PA2, 10 PA3, 11 PA4, 12 PA5, 13 PA6, 14 PA7, 15 PB0, 16 PB1, 17 PB2, 18 PA8, 19 PA9/NC, 20 PC6, 21 PA10/NC, 22 PA11/PA9, 23 PA12/PA10, 24 PA13, 25 PA14, 26 PA15, 27 PB3, 28 PB4, 29 PB5, 30 PB6, 31 PB7, 32 PB8